# Altium integrated library Xilinx Spartan-II.IntLib: 60 symbols (part 1 of 7)
Pins are listed as number, name and electrical type; pins without a type are passive.

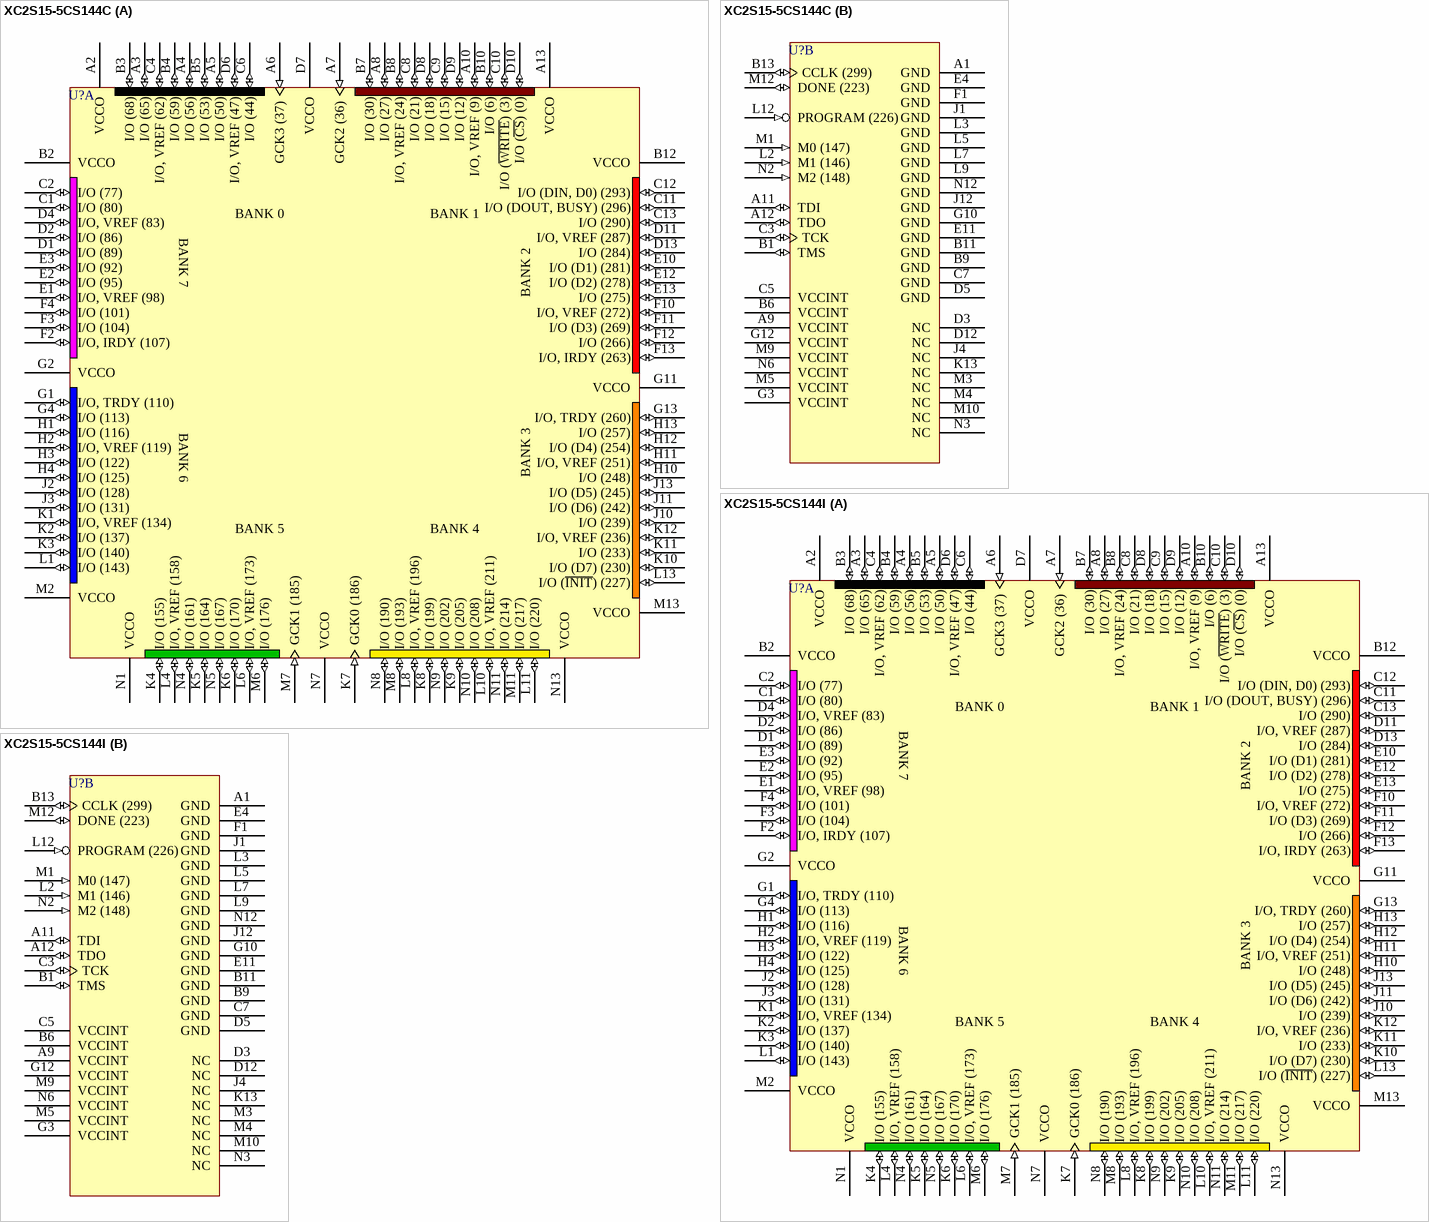
[diagram p0: symbols XC2S15-5CS144C to XC2S15-5CS144I]

## XC2S15-5CS144C
designator U?
Spartan-II 2.5V FPGA, 144-Ball CSBGA, Standard Performance, Commercial Grade; PackageDocument: ver1.0, Jun-2000; Published: 13-Jul-2001; LatestRevisionDate: 17-Sep-2003; LatestRevisionNote: PCB Footprint dimensions updated; DatasheetDocument: Sep-2003; PackageReference: CS144; Publisher: Altium Limited
footprint CS144 (144-Ball Chip Scale Ball Grid Array (CS144))
3D model XC2S15-CS144 (144-Ball Chip Scale Ball Grid Array (CS144))
signal-integrity model XC2S15_CS144 (Spartan-II)
part A pins: A2 VCCO (power), A3 I/O (65) (io), A4 I/O (56) (io), A5 I/O (50) (io), A6 GCK3 (37) (in), A7 GCK2 (36) (in), A8 I/O (27) (io), A10 I/O, VREF (9) (io), A13 VCCO (power), B2 VCCO (power), B3 I/O (68) (io), B4 I/O (59) (io), B5 I/O (53) (io), B7 I/O (30) (io), B8 I/O, VREF (24) (io), B10 I/O (6) (io), B12 VCCO (power), C1 I/O (80) (io), C2 I/O (77) (io), C4 I/O, VREF (62) (io), C6 I/O (44) (io), C8 I/O (21) (io), C9 I/O (15) (io), C10 I/O (~{WRITE}) (3) (io), C11 I/O (DOUT, BUSY) (296) (io), C12 I/O (DIN, D0) (293) (io), C13 I/O (290) (io), D1 I/O (89) (io), D2 I/O (86) (io), D4 I/O, VREF (83) (io), D6 I/O, VREF (47) (io), D7 VCCO (power), D8 I/O (18) (io), D9 I/O (12) (io), D10 I/O (~{CS}) (0) (io), D11 I/O, VREF (287) (io), D13 I/O (284) (io), E1 I/O, VREF (98) (io), E2 I/O (95) (io), E3 I/O (92) (io), E10 I/O (D1) (281) (io), E12 I/O (D2) (278) (io), E13 I/O (275) (io), F2 I/O, IRDY (107) (io), F3 I/O (104) (io), F4 I/O (101) (io), F10 I/O, VREF (272) (io), F11 I/O (D3) (269) (io), F12 I/O (266) (io), F13 I/O, IRDY (263) (io), G1 I/O, TRDY (110) (io), G2 VCCO (power), G4 I/O (113) (io), G11 VCCO (power), G13 I/O, TRDY (260) (io), H1 I/O (116) (io), H2 I/O, VREF (119) (io), H3 I/O (122) (io), H4 I/O (125) (io), H10 I/O (248) (io), H11 I/O, VREF (251) (io), H12 I/O (D4) (254) (io), H13 I/O (257) (io), J2 I/O (128) (io), J3 I/O (131) (io), J10 I/O (239) (io), J11 I/O (D6) (242) (io), J13 I/O (D5) (245) (io), K1 I/O, VREF (134) (io), K2 I/O (137) (io), K3 I/O (140) (io), K4 I/O (155) (io), K5 I/O (164) (io), K6 I/O (170) (io), K7 GCK0 (186) (in), K8 I/O (199) (io), K9 I/O (205) (io), K10 I/O (D7) (230) (io), K11 I/O (233) (io), K12 I/O, VREF (236) (io), L1 I/O (143) (io), L4 I/O, VREF (158) (io), L6 I/O, VREF (173) (io), L8 I/O, VREF (196) (io), L10 I/O, VREF (211) (io), L11 I/O (220) (io), L13 I/O (~{INIT}) (227) (io), M2 VCCO (power), M6 I/O (176) (io), M7 GCK1 (185) (in), M8 I/O (193) (io), M11 I/O (217) (io), M13 VCCO (power), N1 VCCO (power), N4 I/O (161) (io), N5 I/O (167) (io), N7 VCCO (power), N8 I/O (190) (io), N9 I/O (202) (io), N10 I/O (208) (io), N11 I/O (214) (io), N13 VCCO (power)
part B pins: A1 GND (power), A9 VCCINT (power), A11 TDI (io), A12 TDO (io), B1 TMS (io), B6 VCCINT (power), B9 GND (power), B11 GND (power), B13 CCLK (299) (io), C3 TCK (io), C5 VCCINT (power), C7 GND (power), D3 NC, D5 GND (power), D12 NC, E4 GND (power), E11 GND (power), F1 GND (power), G3 VCCINT (power), G10 GND (power), G12 VCCINT (power), J1 GND (power), J4 NC, J12 GND (power), K13 NC, L2 M1 (146) (in), L3 GND (power), L5 GND (power), L7 GND (power), L9 GND (power), L12 PROGRAM (226) (in), M1 M0 (147) (in), M3 NC, M4 NC, M5 VCCINT (power), M9 VCCINT (power), M10 NC, M12 DONE (223) (io), N2 M2 (148) (in), N3 NC, N6 VCCINT (power), N12 GND (power)
part A text: BANK 0; BANK 1; BANK 7; BANK 2; BANK 6; BANK 3; BANK 5; BANK 4

## XC2S15-5CS144I
designator U?
Spartan-II 2.5V FPGA, 144-Ball CSBGA, Standard Performance, Industrial Grade; PackageDocument: ver1.0, Jun-2000; Published: 13-Jul-2001; LatestRevisionDate: 17-Sep-2003; LatestRevisionNote: PCB Footprint dimensions updated; DatasheetDocument: Sep-2003; PackageReference: CS144; Publisher: Altium Limited
footprint CS144 (144-Ball Chip Scale Ball Grid Array (CS144))
3D model XC2S15-CS144 (144-Ball Chip Scale Ball Grid Array (CS144))
signal-integrity model XC2S15_CS144 (Spartan-II)
part A pins: A2 VCCO (power), A3 I/O (65) (io), A4 I/O (56) (io), A5 I/O (50) (io), A6 GCK3 (37) (in), A7 GCK2 (36) (in), A8 I/O (27) (io), A10 I/O, VREF (9) (io), A13 VCCO (power), B2 VCCO (power), B3 I/O (68) (io), B4 I/O (59) (io), B5 I/O (53) (io), B7 I/O (30) (io), B8 I/O, VREF (24) (io), B10 I/O (6) (io), B12 VCCO (power), C1 I/O (80) (io), C2 I/O (77) (io), C4 I/O, VREF (62) (io), C6 I/O (44) (io), C8 I/O (21) (io), C9 I/O (15) (io), C10 I/O (~{WRITE}) (3) (io), C11 I/O (DOUT, BUSY) (296) (io), C12 I/O (DIN, D0) (293) (io), C13 I/O (290) (io), D1 I/O (89) (io), D2 I/O (86) (io), D4 I/O, VREF (83) (io), D6 I/O, VREF (47) (io), D7 VCCO (power), D8 I/O (18) (io), D9 I/O (12) (io), D10 I/O (~{CS}) (0) (io), D11 I/O, VREF (287) (io), D13 I/O (284) (io), E1 I/O, VREF (98) (io), E2 I/O (95) (io), E3 I/O (92) (io), E10 I/O (D1) (281) (io), E12 I/O (D2) (278) (io), E13 I/O (275) (io), F2 I/O, IRDY (107) (io), F3 I/O (104) (io), F4 I/O (101) (io), F10 I/O, VREF (272) (io), F11 I/O (D3) (269) (io), F12 I/O (266) (io), F13 I/O, IRDY (263) (io), G1 I/O, TRDY (110) (io), G2 VCCO (power), G4 I/O (113) (io), G11 VCCO (power), G13 I/O, TRDY (260) (io), H1 I/O (116) (io), H2 I/O, VREF (119) (io), H3 I/O (122) (io), H4 I/O (125) (io), H10 I/O (248) (io), H11 I/O, VREF (251) (io), H12 I/O (D4) (254) (io), H13 I/O (257) (io), J2 I/O (128) (io), J3 I/O (131) (io), J10 I/O (239) (io), J11 I/O (D6) (242) (io), J13 I/O (D5) (245) (io), K1 I/O, VREF (134) (io), K2 I/O (137) (io), K3 I/O (140) (io), K4 I/O (155) (io), K5 I/O (164) (io), K6 I/O (170) (io), K7 GCK0 (186) (in), K8 I/O (199) (io), K9 I/O (205) (io), K10 I/O (D7) (230) (io), K11 I/O (233) (io), K12 I/O, VREF (236) (io), L1 I/O (143) (io), L4 I/O, VREF (158) (io), L6 I/O, VREF (173) (io), L8 I/O, VREF (196) (io), L10 I/O, VREF (211) (io), L11 I/O (220) (io), L13 I/O (~{INIT}) (227) (io), M2 VCCO (power), M6 I/O (176) (io), M7 GCK1 (185) (in), M8 I/O (193) (io), M11 I/O (217) (io), M13 VCCO (power), N1 VCCO (power), N4 I/O (161) (io), N5 I/O (167) (io), N7 VCCO (power), N8 I/O (190) (io), N9 I/O (202) (io), N10 I/O (208) (io), N11 I/O (214) (io), N13 VCCO (power)
part B pins: A1 GND (power), A9 VCCINT (power), A11 TDI (io), A12 TDO (io), B1 TMS (io), B6 VCCINT (power), B9 GND (power), B11 GND (power), B13 CCLK (299) (io), C3 TCK (io), C5 VCCINT (power), C7 GND (power), D3 NC, D5 GND (power), D12 NC, E4 GND (power), E11 GND (power), F1 GND (power), G3 VCCINT (power), G10 GND (power), G12 VCCINT (power), J1 GND (power), J4 NC, J12 GND (power), K13 NC, L2 M1 (146) (in), L3 GND (power), L5 GND (power), L7 GND (power), L9 GND (power), L12 PROGRAM (226) (in), M1 M0 (147) (in), M3 NC, M4 NC, M5 VCCINT (power), M9 VCCINT (power), M10 NC, M12 DONE (223) (io), N2 M2 (148) (in), N3 NC, N6 VCCINT (power), N12 GND (power)
part A text: BANK 0; BANK 1; BANK 7; BANK 2; BANK 6; BANK 3; BANK 5; BANK 4

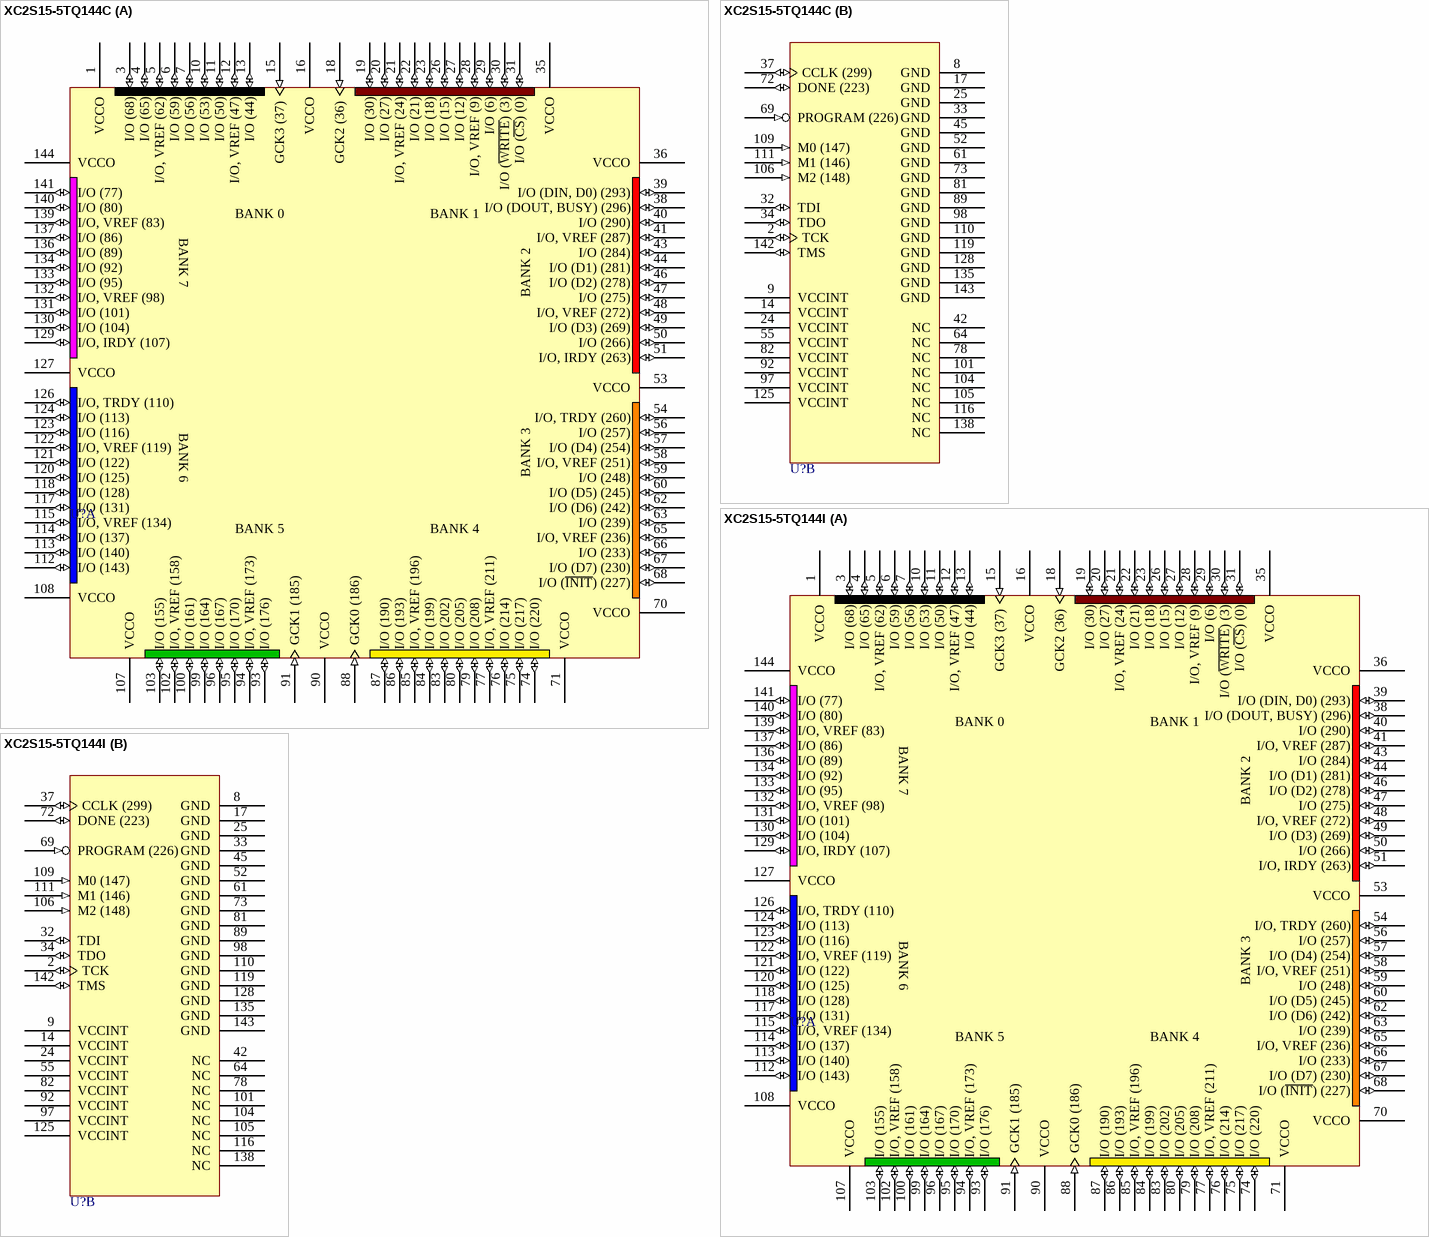
[diagram p1: symbols XC2S15-5TQ144C to XC2S15-5TQ144I]

## XC2S15-5TQ144C
designator U?
Spartan-II 2.5V FPGA, 144-Pin TQFP, Standard Performance, Commercial Grade; PackageDocument: ver1.1, Oct-2002; Published: 13-Jul-2001; LatestRevisionDate: 17-Jul-2002; LatestRevisionNote: Re-released for DXP Platform.; DatasheetDocument: Sep-2003; PackageReference: TQ144; Publisher: Altium Limited; Code_JEDEC: MS-026-BFB; Code_IPC: SQFP20X20-144
footprint TQ144 (144-Pin Thin Quad Flat Pack (TQ144))
3D model XC2S15-TQ144 (144-Pin Thin Quad Flat Pack (TQ144))
signal-integrity model XC2S15_TQ144 (Spartan-II)
part A pins: 1 VCCO (power), 3 I/O (68) (io), 4 I/O (65) (io), 5 I/O, VREF (62) (io), 6 I/O (59) (io), 7 I/O (56) (io), 10 I/O (53) (io), 11 I/O (50) (io), 12 I/O, VREF (47) (io), 13 I/O (44) (io), 15 GCK3 (37) (in), 16 VCCO (power), 18 GCK2 (36) (in), 19 I/O (30) (io), 20 I/O (27) (io), 21 I/O, VREF (24) (io), 22 I/O (21) (io), 23 I/O (18) (io), 26 I/O (15) (io), 27 I/O (12) (io), 28 I/O, VREF (9) (io), 29 I/O (6) (io), 30 I/O (~{WRITE}) (3) (io), 31 I/O (~{CS}) (0) (io), 35 VCCO (power), 36 VCCO (power), 38 I/O (DOUT, BUSY) (296) (io), 39 I/O (DIN, D0) (293) (io), 40 I/O (290) (io), 41 I/O, VREF (287) (io), 43 I/O (284) (io), 44 I/O (D1) (281) (io), 46 I/O (D2) (278) (io), 47 I/O (275) (io), 48 I/O, VREF (272) (io), 49 I/O (D3) (269) (io), 50 I/O (266) (io), 51 I/O, IRDY (263) (io), 53 VCCO (power), 54 I/O, TRDY (260) (io), 56 I/O (257) (io), 57 I/O (D4) (254) (io), 58 I/O, VREF (251) (io), 59 I/O (248) (io), 60 I/O (D5) (245) (io), 62 I/O (D6) (242) (io), 63 I/O (239) (io), 65 I/O, VREF (236) (io), 66 I/O (233) (io), 67 I/O (D7) (230) (io), 68 I/O (~{INIT}) (227) (io), 70 VCCO (power), 71 VCCO (power), 74 I/O (220) (io), 75 I/O (217) (io), 76 I/O (214) (io), 77 I/O, VREF (211) (io), 79 I/O (208) (io), 80 I/O (205) (io), 83 I/O (202) (io), 84 I/O (199) (io), 85 I/O, VREF (196) (io), 86 I/O (193) (io), 87 I/O (190) (io), 88 GCK0 (186) (in), 90 VCCO (power), 91 GCK1 (185) (in), 93 I/O (176) (io), 94 I/O, VREF (173) (io), 95 I/O (170) (io), 96 I/O (167) (io), 99 I/O (164) (io), 100 I/O (161) (io), 102 I/O, VREF (158) (io), 103 I/O (155) (io), 107 VCCO (power), 108 VCCO (power), 112 I/O (143) (io), 113 I/O (140) (io), 114 I/O (137) (io), 115 I/O, VREF (134) (io), 117 I/O (131) (io), 118 I/O (128) (io), 120 I/O (125) (io), 121 I/O (122) (io), 122 I/O, VREF (119) (io), 123 I/O (116) (io), 124 I/O (113) (io), 126 I/O, TRDY (110) (io), 127 VCCO (power), 129 I/O, IRDY (107) (io), 130 I/O (104) (io), 131 I/O (101) (io), 132 I/O, VREF (98) (io), 133 I/O (95) (io), 134 I/O (92) (io), 136 I/O (89) (io), 137 I/O (86) (io), 139 I/O, VREF (83) (io), 140 I/O (80) (io), 141 I/O (77) (io), 144 VCCO (power)
part B pins: 2 TCK (io), 8 GND (power), 9 VCCINT (power), 14 VCCINT (power), 17 GND (power), 24 VCCINT (power), 25 GND (power), 32 TDI (io), 33 GND (power), 34 TDO (io), 37 CCLK (299) (io), 42 NC, 45 GND (power), 52 GND (power), 55 VCCINT (power), 61 GND (power), 64 NC, 69 PROGRAM (226) (in), 72 DONE (223) (io), 73 GND (power), 78 NC, 81 GND (power), 82 VCCINT (power), 89 GND (power), 92 VCCINT (power), 97 VCCINT (power), 98 GND (power), 101 NC, 104 NC, 105 NC, 106 M2 (148) (in), 109 M0 (147) (in), 110 GND (power), 111 M1 (146) (in), 116 NC, 119 GND (power), 125 VCCINT (power), 128 GND (power), 135 GND (power), 138 NC, 142 TMS (io), 143 GND (power)
part A text: BANK 0; BANK 1; BANK 7; BANK 2; BANK 6; BANK 3; BANK 5; BANK 4

## XC2S15-5TQ144I
designator U?
Spartan-II 2.5V FPGA, 144-Pin TQFP, Standard Performance, Industrial Grade; PackageDocument: ver1.1, Oct-2002; Published: 13-Jul-2001; LatestRevisionDate: 17-Jul-2002; LatestRevisionNote: Re-released for DXP Platform.; DatasheetDocument: Sep-2003; PackageReference: TQ144; Publisher: Altium Limited; Code_JEDEC: MS-026-BFB; Code_IPC: SQFP20X20-144
footprint TQ144 (144-Pin Thin Quad Flat Pack (TQ144))
3D model XC2S15-TQ144 (144-Pin Thin Quad Flat Pack (TQ144))
signal-integrity model XC2S15_TQ144 (Spartan-II)
part A pins: 1 VCCO (power), 3 I/O (68) (io), 4 I/O (65) (io), 5 I/O, VREF (62) (io), 6 I/O (59) (io), 7 I/O (56) (io), 10 I/O (53) (io), 11 I/O (50) (io), 12 I/O, VREF (47) (io), 13 I/O (44) (io), 15 GCK3 (37) (in), 16 VCCO (power), 18 GCK2 (36) (in), 19 I/O (30) (io), 20 I/O (27) (io), 21 I/O, VREF (24) (io), 22 I/O (21) (io), 23 I/O (18) (io), 26 I/O (15) (io), 27 I/O (12) (io), 28 I/O, VREF (9) (io), 29 I/O (6) (io), 30 I/O (~{WRITE}) (3) (io), 31 I/O (~{CS}) (0) (io), 35 VCCO (power), 36 VCCO (power), 38 I/O (DOUT, BUSY) (296) (io), 39 I/O (DIN, D0) (293) (io), 40 I/O (290) (io), 41 I/O, VREF (287) (io), 43 I/O (284) (io), 44 I/O (D1) (281) (io), 46 I/O (D2) (278) (io), 47 I/O (275) (io), 48 I/O, VREF (272) (io), 49 I/O (D3) (269) (io), 50 I/O (266) (io), 51 I/O, IRDY (263) (io), 53 VCCO (power), 54 I/O, TRDY (260) (io), 56 I/O (257) (io), 57 I/O (D4) (254) (io), 58 I/O, VREF (251) (io), 59 I/O (248) (io), 60 I/O (D5) (245) (io), 62 I/O (D6) (242) (io), 63 I/O (239) (io), 65 I/O, VREF (236) (io), 66 I/O (233) (io), 67 I/O (D7) (230) (io), 68 I/O (~{INIT}) (227) (io), 70 VCCO (power), 71 VCCO (power), 74 I/O (220) (io), 75 I/O (217) (io), 76 I/O (214) (io), 77 I/O, VREF (211) (io), 79 I/O (208) (io), 80 I/O (205) (io), 83 I/O (202) (io), 84 I/O (199) (io), 85 I/O, VREF (196) (io), 86 I/O (193) (io), 87 I/O (190) (io), 88 GCK0 (186) (in), 90 VCCO (power), 91 GCK1 (185) (in), 93 I/O (176) (io), 94 I/O, VREF (173) (io), 95 I/O (170) (io), 96 I/O (167) (io), 99 I/O (164) (io), 100 I/O (161) (io), 102 I/O, VREF (158) (io), 103 I/O (155) (io), 107 VCCO (power), 108 VCCO (power), 112 I/O (143) (io), 113 I/O (140) (io), 114 I/O (137) (io), 115 I/O, VREF (134) (io), 117 I/O (131) (io), 118 I/O (128) (io), 120 I/O (125) (io), 121 I/O (122) (io), 122 I/O, VREF (119) (io), 123 I/O (116) (io), 124 I/O (113) (io), 126 I/O, TRDY (110) (io), 127 VCCO (power), 129 I/O, IRDY (107) (io), 130 I/O (104) (io), 131 I/O (101) (io), 132 I/O, VREF (98) (io), 133 I/O (95) (io), 134 I/O (92) (io), 136 I/O (89) (io), 137 I/O (86) (io), 139 I/O, VREF (83) (io), 140 I/O (80) (io), 141 I/O (77) (io), 144 VCCO (power)
part B pins: 2 TCK (io), 8 GND (power), 9 VCCINT (power), 14 VCCINT (power), 17 GND (power), 24 VCCINT (power), 25 GND (power), 32 TDI (io), 33 GND (power), 34 TDO (io), 37 CCLK (299) (io), 42 NC, 45 GND (power), 52 GND (power), 55 VCCINT (power), 61 GND (power), 64 NC, 69 PROGRAM (226) (in), 72 DONE (223) (io), 73 GND (power), 78 NC, 81 GND (power), 82 VCCINT (power), 89 GND (power), 92 VCCINT (power), 97 VCCINT (power), 98 GND (power), 101 NC, 104 NC, 105 NC, 106 M2 (148) (in), 109 M0 (147) (in), 110 GND (power), 111 M1 (146) (in), 116 NC, 119 GND (power), 125 VCCINT (power), 128 GND (power), 135 GND (power), 138 NC, 142 TMS (io), 143 GND (power)
part A text: BANK 0; BANK 1; BANK 7; BANK 2; BANK 6; BANK 3; BANK 5; BANK 4

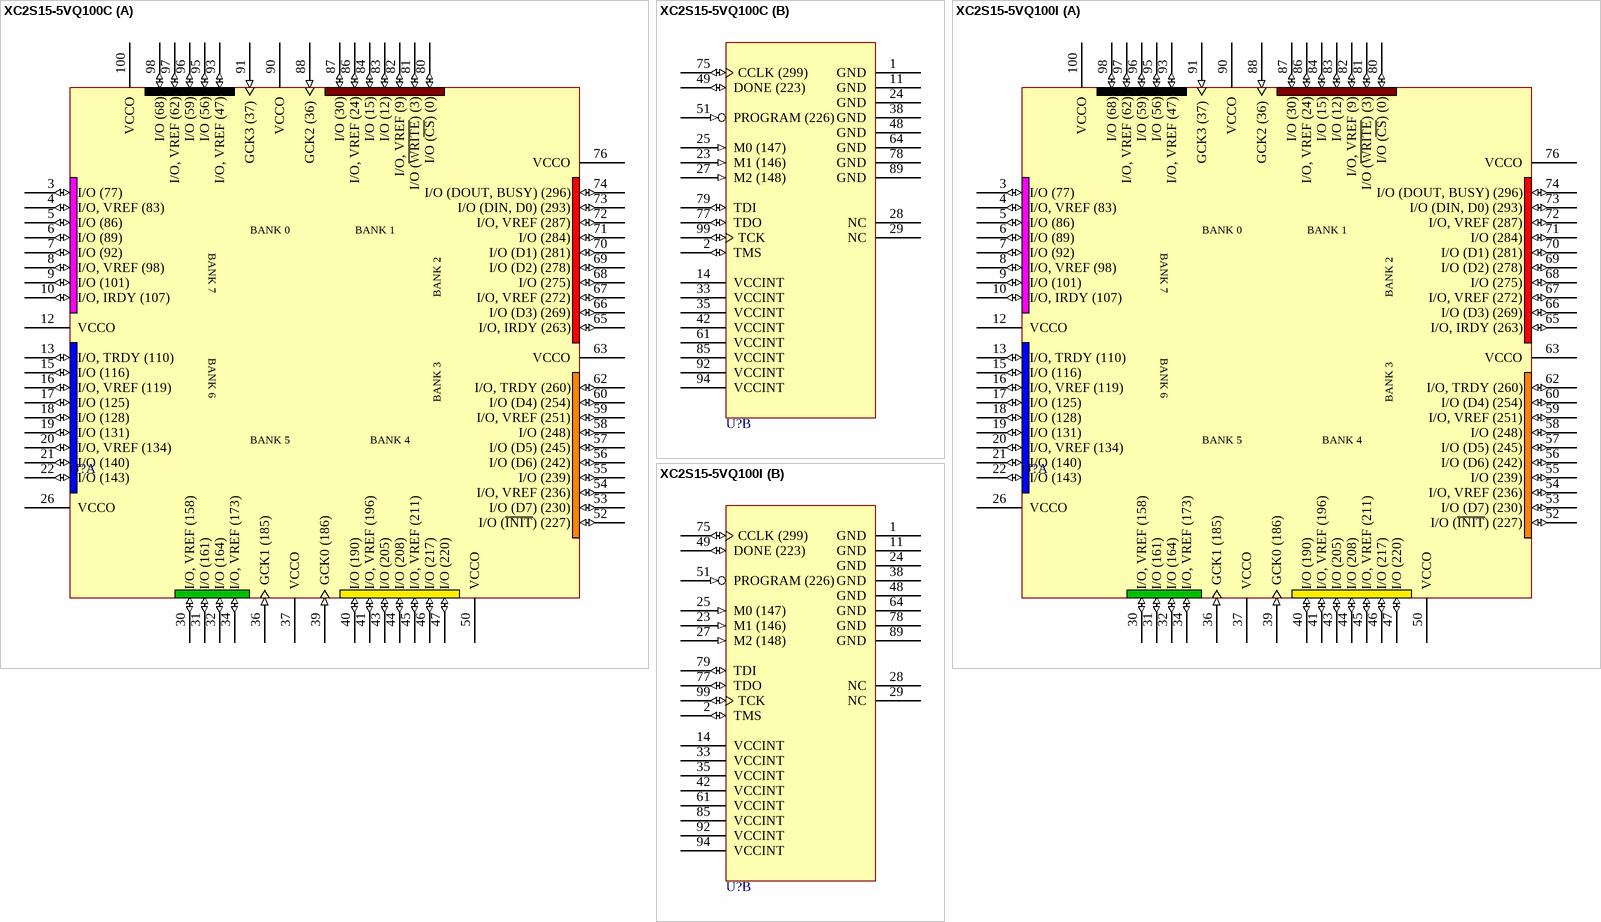
[diagram p2: symbols XC2S15-5VQ100C to XC2S15-5VQ100I]

## XC2S15-5VQ100C
designator U?
Spartan-II 2.5V FPGA, 100-Pin VQFP, Standard Performance, Commercial Grade; PackageDocument: ver1.1, Oct-2002; Published: 13-Jul-2001; LatestRevisionDate: 17-Jul-2002; LatestRevisionNote: Re-released for DXP Platform.; DatasheetDocument: Sep-2003; PackageReference: VQ100; Publisher: Altium Limited; Code_JEDEC: MS-026-AED; Code_IPC: SQFP14X14-100
footprint VQ100 (100-Pin Very Thin Quad Flat Pack (VQ100))
3D model XC2S15-VQ100 (100-Pin Very Thin Quad Flat Pack (VQ100))
signal-integrity model XC2S15_VQ100 (Spartan-II)
part A pins: 3 I/O (77) (io), 4 I/O, VREF (83) (io), 5 I/O (86) (io), 6 I/O (89) (io), 7 I/O (92) (io), 8 I/O, VREF (98) (io), 9 I/O (101) (io), 10 I/O, IRDY (107) (io), 12 VCCO (power), 13 I/O, TRDY (110) (io), 15 I/O (116) (io), 16 I/O, VREF (119) (io), 17 I/O (125) (io), 18 I/O (128) (io), 19 I/O (131) (io), 20 I/O, VREF (134) (io), 21 I/O (140) (io), 22 I/O (143) (io), 26 VCCO (power), 30 I/O, VREF (158) (io), 31 I/O (161) (io), 32 I/O (164) (io), 34 I/O, VREF (173) (io), 36 GCK1 (185) (in), 37 VCCO (power), 39 GCK0 (186) (in), 40 I/O (190) (io), 41 I/O, VREF (196) (io), 43 I/O (205) (io), 44 I/O (208) (io), 45 I/O, VREF (211) (io), 46 I/O (217) (io), 47 I/O (220) (io), 50 VCCO (power), 52 I/O (~{INIT}) (227) (io), 53 I/O (D7) (230) (io), 54 I/O, VREF (236) (io), 55 I/O (239) (io), 56 I/O (D6) (242) (io), 57 I/O (D5) (245) (io), 58 I/O (248) (io), 59 I/O, VREF (251) (io), 60 I/O (D4) (254) (io), 62 I/O, TRDY (260) (io), 63 VCCO (power), 65 I/O, IRDY (263) (io), 66 I/O (D3) (269) (io), 67 I/O, VREF (272) (io), 68 I/O (275) (io), 69 I/O (D2) (278) (io), 70 I/O (D1) (281) (io), 71 I/O (284) (io), 72 I/O, VREF (287) (io), 73 I/O (DIN, D0) (293) (io), 74 I/O (DOUT, BUSY) (296) (io), 76 VCCO (power), 80 I/O (~{CS}) (0) (io), 81 I/O (~{WRITE}) (3) (io), 82 I/O, VREF (9) (io), 83 I/O (12) (io), 84 I/O (15) (io), 86 I/O, VREF (24) (io), 87 I/O (30) (io), 88 GCK2 (36) (in), 90 VCCO (power), 91 GCK3 (37) (in), 93 I/O, VREF (47) (io), 95 I/O (56) (io), 96 I/O (59) (io), 97 I/O, VREF (62) (io), 98 I/O (68) (io), 100 VCCO (power)
part B pins: 1 GND (power), 2 TMS (io), 11 GND (power), 14 VCCINT (power), 23 M1 (146) (in), 24 GND (power), 25 M0 (147) (in), 27 M2 (148) (in), 28 NC, 29 NC, 33 VCCINT (power), 35 VCCINT (power), 38 GND (power), 42 VCCINT (power), 48 GND (power), 49 DONE (223) (io), 51 PROGRAM (226) (in), 61 VCCINT (power), 64 GND (power), 75 CCLK (299) (io), 77 TDO (io), 78 GND (power), 79 TDI (io), 85 VCCINT (power), 89 GND (power), 92 VCCINT (power), 94 VCCINT (power), 99 TCK (io)
part A text: BANK 0; BANK 1; BANK 7; BANK 2; BANK 6; BANK 3; BANK 5; BANK 4

## XC2S15-5VQ100I
designator U?
Spartan-II 2.5V FPGA, 100-Pin VQFP, Standard Performance, Industrial Grade; PackageDocument: ver1.1, Oct-2002; Published: 13-Jul-2001; LatestRevisionDate: 17-Jul-2002; LatestRevisionNote: Re-released for DXP Platform.; DatasheetDocument: Sep-2003; PackageReference: VQ100; Publisher: Altium Limited; Code_JEDEC: MS-026-AED; Code_IPC: SQFP14X14-100
footprint VQ100 (100-Pin Very Thin Quad Flat Pack (VQ100))
3D model XC2S15-VQ100 (100-Pin Very Thin Quad Flat Pack (VQ100))
signal-integrity model XC2S15_VQ100 (Spartan-II)
part A pins: 3 I/O (77) (io), 4 I/O, VREF (83) (io), 5 I/O (86) (io), 6 I/O (89) (io), 7 I/O (92) (io), 8 I/O, VREF (98) (io), 9 I/O (101) (io), 10 I/O, IRDY (107) (io), 12 VCCO (power), 13 I/O, TRDY (110) (io), 15 I/O (116) (io), 16 I/O, VREF (119) (io), 17 I/O (125) (io), 18 I/O (128) (io), 19 I/O (131) (io), 20 I/O, VREF (134) (io), 21 I/O (140) (io), 22 I/O (143) (io), 26 VCCO (power), 30 I/O, VREF (158) (io), 31 I/O (161) (io), 32 I/O (164) (io), 34 I/O, VREF (173) (io), 36 GCK1 (185) (in), 37 VCCO (power), 39 GCK0 (186) (in), 40 I/O (190) (io), 41 I/O, VREF (196) (io), 43 I/O (205) (io), 44 I/O (208) (io), 45 I/O, VREF (211) (io), 46 I/O (217) (io), 47 I/O (220) (io), 50 VCCO (power), 52 I/O (~{INIT}) (227) (io), 53 I/O (D7) (230) (io), 54 I/O, VREF (236) (io), 55 I/O (239) (io), 56 I/O (D6) (242) (io), 57 I/O (D5) (245) (io), 58 I/O (248) (io), 59 I/O, VREF (251) (io), 60 I/O (D4) (254) (io), 62 I/O, TRDY (260) (io), 63 VCCO (power), 65 I/O, IRDY (263) (io), 66 I/O (D3) (269) (io), 67 I/O, VREF (272) (io), 68 I/O (275) (io), 69 I/O (D2) (278) (io), 70 I/O (D1) (281) (io), 71 I/O (284) (io), 72 I/O, VREF (287) (io), 73 I/O (DIN, D0) (293) (io), 74 I/O (DOUT, BUSY) (296) (io), 76 VCCO (power), 80 I/O (~{CS}) (0) (io), 81 I/O (~{WRITE}) (3) (io), 82 I/O, VREF (9) (io), 83 I/O (12) (io), 84 I/O (15) (io), 86 I/O, VREF (24) (io), 87 I/O (30) (io), 88 GCK2 (36) (in), 90 VCCO (power), 91 GCK3 (37) (in), 93 I/O, VREF (47) (io), 95 I/O (56) (io), 96 I/O (59) (io), 97 I/O, VREF (62) (io), 98 I/O (68) (io), 100 VCCO (power)
part B pins: 1 GND (power), 2 TMS (io), 11 GND (power), 14 VCCINT (power), 23 M1 (146) (in), 24 GND (power), 25 M0 (147) (in), 27 M2 (148) (in), 28 NC, 29 NC, 33 VCCINT (power), 35 VCCINT (power), 38 GND (power), 42 VCCINT (power), 48 GND (power), 49 DONE (223) (io), 51 PROGRAM (226) (in), 61 VCCINT (power), 64 GND (power), 75 CCLK (299) (io), 77 TDO (io), 78 GND (power), 79 TDI (io), 85 VCCINT (power), 89 GND (power), 92 VCCINT (power), 94 VCCINT (power), 99 TCK (io)
part A text: BANK 0; BANK 1; BANK 7; BANK 2; BANK 6; BANK 3; BANK 5; BANK 4

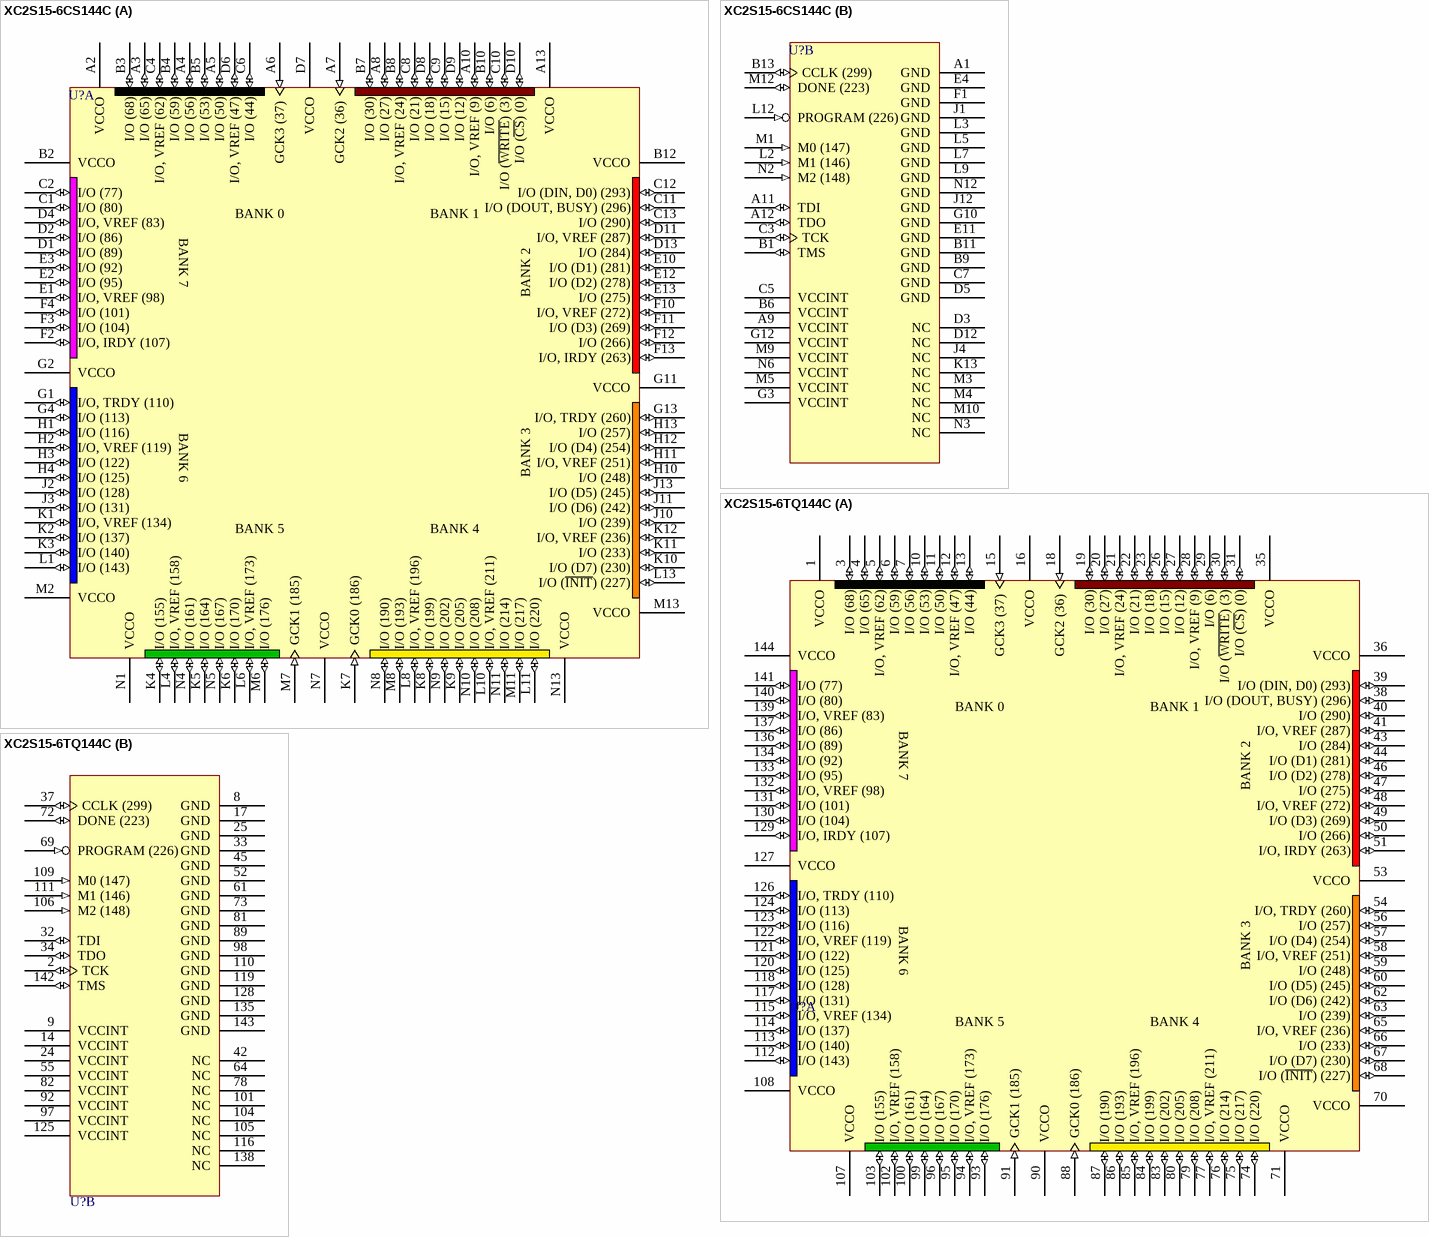
[diagram p3: symbols XC2S15-6CS144C to XC2S15-6TQ144C]

## XC2S15-6CS144C
designator U?
Spartan-II 2.5V FPGA, 144-Ball CSBGA, Higher Performance, Commercial Grade; PackageDocument: ver1.0, Jun-2000; Published: 13-Jul-2001; LatestRevisionDate: 17-Sep-2003; LatestRevisionNote: PCB Footprint dimensions updated; DatasheetDocument: Sep-2003; PackageReference: CS144; Publisher: Altium Limited
footprint CS144 (144-Ball Chip Scale Ball Grid Array (CS144))
3D model XC2S15-CS144 (144-Ball Chip Scale Ball Grid Array (CS144))
signal-integrity model XC2S15_CS144 (Spartan-II)
part A pins: A2 VCCO (power), A3 I/O (65) (io), A4 I/O (56) (io), A5 I/O (50) (io), A6 GCK3 (37) (in), A7 GCK2 (36) (in), A8 I/O (27) (io), A10 I/O, VREF (9) (io), A13 VCCO (power), B2 VCCO (power), B3 I/O (68) (io), B4 I/O (59) (io), B5 I/O (53) (io), B7 I/O (30) (io), B8 I/O, VREF (24) (io), B10 I/O (6) (io), B12 VCCO (power), C1 I/O (80) (io), C2 I/O (77) (io), C4 I/O, VREF (62) (io), C6 I/O (44) (io), C8 I/O (21) (io), C9 I/O (15) (io), C10 I/O (~{WRITE}) (3) (io), C11 I/O (DOUT, BUSY) (296) (io), C12 I/O (DIN, D0) (293) (io), C13 I/O (290) (io), D1 I/O (89) (io), D2 I/O (86) (io), D4 I/O, VREF (83) (io), D6 I/O, VREF (47) (io), D7 VCCO (power), D8 I/O (18) (io), D9 I/O (12) (io), D10 I/O (~{CS}) (0) (io), D11 I/O, VREF (287) (io), D13 I/O (284) (io), E1 I/O, VREF (98) (io), E2 I/O (95) (io), E3 I/O (92) (io), E10 I/O (D1) (281) (io), E12 I/O (D2) (278) (io), E13 I/O (275) (io), F2 I/O, IRDY (107) (io), F3 I/O (104) (io), F4 I/O (101) (io), F10 I/O, VREF (272) (io), F11 I/O (D3) (269) (io), F12 I/O (266) (io), F13 I/O, IRDY (263) (io), G1 I/O, TRDY (110) (io), G2 VCCO (power), G4 I/O (113) (io), G11 VCCO (power), G13 I/O, TRDY (260) (io), H1 I/O (116) (io), H2 I/O, VREF (119) (io), H3 I/O (122) (io), H4 I/O (125) (io), H10 I/O (248) (io), H11 I/O, VREF (251) (io), H12 I/O (D4) (254) (io), H13 I/O (257) (io), J2 I/O (128) (io), J3 I/O (131) (io), J10 I/O (239) (io), J11 I/O (D6) (242) (io), J13 I/O (D5) (245) (io), K1 I/O, VREF (134) (io), K2 I/O (137) (io), K3 I/O (140) (io), K4 I/O (155) (io), K5 I/O (164) (io), K6 I/O (170) (io), K7 GCK0 (186) (in), K8 I/O (199) (io), K9 I/O (205) (io), K10 I/O (D7) (230) (io), K11 I/O (233) (io), K12 I/O, VREF (236) (io), L1 I/O (143) (io), L4 I/O, VREF (158) (io), L6 I/O, VREF (173) (io), L8 I/O, VREF (196) (io), L10 I/O, VREF (211) (io), L11 I/O (220) (io), L13 I/O (~{INIT}) (227) (io), M2 VCCO (power), M6 I/O (176) (io), M7 GCK1 (185) (in), M8 I/O (193) (io), M11 I/O (217) (io), M13 VCCO (power), N1 VCCO (power), N4 I/O (161) (io), N5 I/O (167) (io), N7 VCCO (power), N8 I/O (190) (io), N9 I/O (202) (io), N10 I/O (208) (io), N11 I/O (214) (io), N13 VCCO (power)
part B pins: A1 GND (power), A9 VCCINT (power), A11 TDI (io), A12 TDO (io), B1 TMS (io), B6 VCCINT (power), B9 GND (power), B11 GND (power), B13 CCLK (299) (io), C3 TCK (io), C5 VCCINT (power), C7 GND (power), D3 NC, D5 GND (power), D12 NC, E4 GND (power), E11 GND (power), F1 GND (power), G3 VCCINT (power), G10 GND (power), G12 VCCINT (power), J1 GND (power), J4 NC, J12 GND (power), K13 NC, L2 M1 (146) (in), L3 GND (power), L5 GND (power), L7 GND (power), L9 GND (power), L12 PROGRAM (226) (in), M1 M0 (147) (in), M3 NC, M4 NC, M5 VCCINT (power), M9 VCCINT (power), M10 NC, M12 DONE (223) (io), N2 M2 (148) (in), N3 NC, N6 VCCINT (power), N12 GND (power)
part A text: BANK 0; BANK 1; BANK 7; BANK 2; BANK 6; BANK 3; BANK 5; BANK 4

## XC2S15-6TQ144C
designator U?
Spartan-II 2.5V FPGA, 144-Pin TQFP, Higher Performance, Commercial Grade; PackageDocument: ver1.1, Oct-2002; Published: 13-Jul-2001; LatestRevisionDate: 17-Jul-2002; LatestRevisionNote: Re-released for DXP Platform.; DatasheetDocument: Sep-2003; PackageReference: TQ144; Publisher: Altium Limited; Code_JEDEC: MS-026-BFB; Code_IPC: SQFP20X20-144
footprint TQ144 (144-Pin Thin Quad Flat Pack (TQ144))
3D model XC2S15-TQ144 (144-Pin Thin Quad Flat Pack (TQ144))
signal-integrity model XC2S15_TQ144 (Spartan-II)
part A pins: 1 VCCO (power), 3 I/O (68) (io), 4 I/O (65) (io), 5 I/O, VREF (62) (io), 6 I/O (59) (io), 7 I/O (56) (io), 10 I/O (53) (io), 11 I/O (50) (io), 12 I/O, VREF (47) (io), 13 I/O (44) (io), 15 GCK3 (37) (in), 16 VCCO (power), 18 GCK2 (36) (in), 19 I/O (30) (io), 20 I/O (27) (io), 21 I/O, VREF (24) (io), 22 I/O (21) (io), 23 I/O (18) (io), 26 I/O (15) (io), 27 I/O (12) (io), 28 I/O, VREF (9) (io), 29 I/O (6) (io), 30 I/O (~{WRITE}) (3) (io), 31 I/O (~{CS}) (0) (io), 35 VCCO (power), 36 VCCO (power), 38 I/O (DOUT, BUSY) (296) (io), 39 I/O (DIN, D0) (293) (io), 40 I/O (290) (io), 41 I/O, VREF (287) (io), 43 I/O (284) (io), 44 I/O (D1) (281) (io), 46 I/O (D2) (278) (io), 47 I/O (275) (io), 48 I/O, VREF (272) (io), 49 I/O (D3) (269) (io), 50 I/O (266) (io), 51 I/O, IRDY (263) (io), 53 VCCO (power), 54 I/O, TRDY (260) (io), 56 I/O (257) (io), 57 I/O (D4) (254) (io), 58 I/O, VREF (251) (io), 59 I/O (248) (io), 60 I/O (D5) (245) (io), 62 I/O (D6) (242) (io), 63 I/O (239) (io), 65 I/O, VREF (236) (io), 66 I/O (233) (io), 67 I/O (D7) (230) (io), 68 I/O (~{INIT}) (227) (io), 70 VCCO (power), 71 VCCO (power), 74 I/O (220) (io), 75 I/O (217) (io), 76 I/O (214) (io), 77 I/O, VREF (211) (io), 79 I/O (208) (io), 80 I/O (205) (io), 83 I/O (202) (io), 84 I/O (199) (io), 85 I/O, VREF (196) (io), 86 I/O (193) (io), 87 I/O (190) (io), 88 GCK0 (186) (in), 90 VCCO (power), 91 GCK1 (185) (in), 93 I/O (176) (io), 94 I/O, VREF (173) (io), 95 I/O (170) (io), 96 I/O (167) (io), 99 I/O (164) (io), 100 I/O (161) (io), 102 I/O, VREF (158) (io), 103 I/O (155) (io), 107 VCCO (power), 108 VCCO (power), 112 I/O (143) (io), 113 I/O (140) (io), 114 I/O (137) (io), 115 I/O, VREF (134) (io), 117 I/O (131) (io), 118 I/O (128) (io), 120 I/O (125) (io), 121 I/O (122) (io), 122 I/O, VREF (119) (io), 123 I/O (116) (io), 124 I/O (113) (io), 126 I/O, TRDY (110) (io), 127 VCCO (power), 129 I/O, IRDY (107) (io), 130 I/O (104) (io), 131 I/O (101) (io), 132 I/O, VREF (98) (io), 133 I/O (95) (io), 134 I/O (92) (io), 136 I/O (89) (io), 137 I/O (86) (io), 139 I/O, VREF (83) (io), 140 I/O (80) (io), 141 I/O (77) (io), 144 VCCO (power)
part B pins: 2 TCK (io), 8 GND (power), 9 VCCINT (power), 14 VCCINT (power), 17 GND (power), 24 VCCINT (power), 25 GND (power), 32 TDI (io), 33 GND (power), 34 TDO (io), 37 CCLK (299) (io), 42 NC, 45 GND (power), 52 GND (power), 55 VCCINT (power), 61 GND (power), 64 NC, 69 PROGRAM (226) (in), 72 DONE (223) (io), 73 GND (power), 78 NC, 81 GND (power), 82 VCCINT (power), 89 GND (power), 92 VCCINT (power), 97 VCCINT (power), 98 GND (power), 101 NC, 104 NC, 105 NC, 106 M2 (148) (in), 109 M0 (147) (in), 110 GND (power), 111 M1 (146) (in), 116 NC, 119 GND (power), 125 VCCINT (power), 128 GND (power), 135 GND (power), 138 NC, 142 TMS (io), 143 GND (power)
part A text: BANK 0; BANK 1; BANK 7; BANK 2; BANK 6; BANK 3; BANK 5; BANK 4

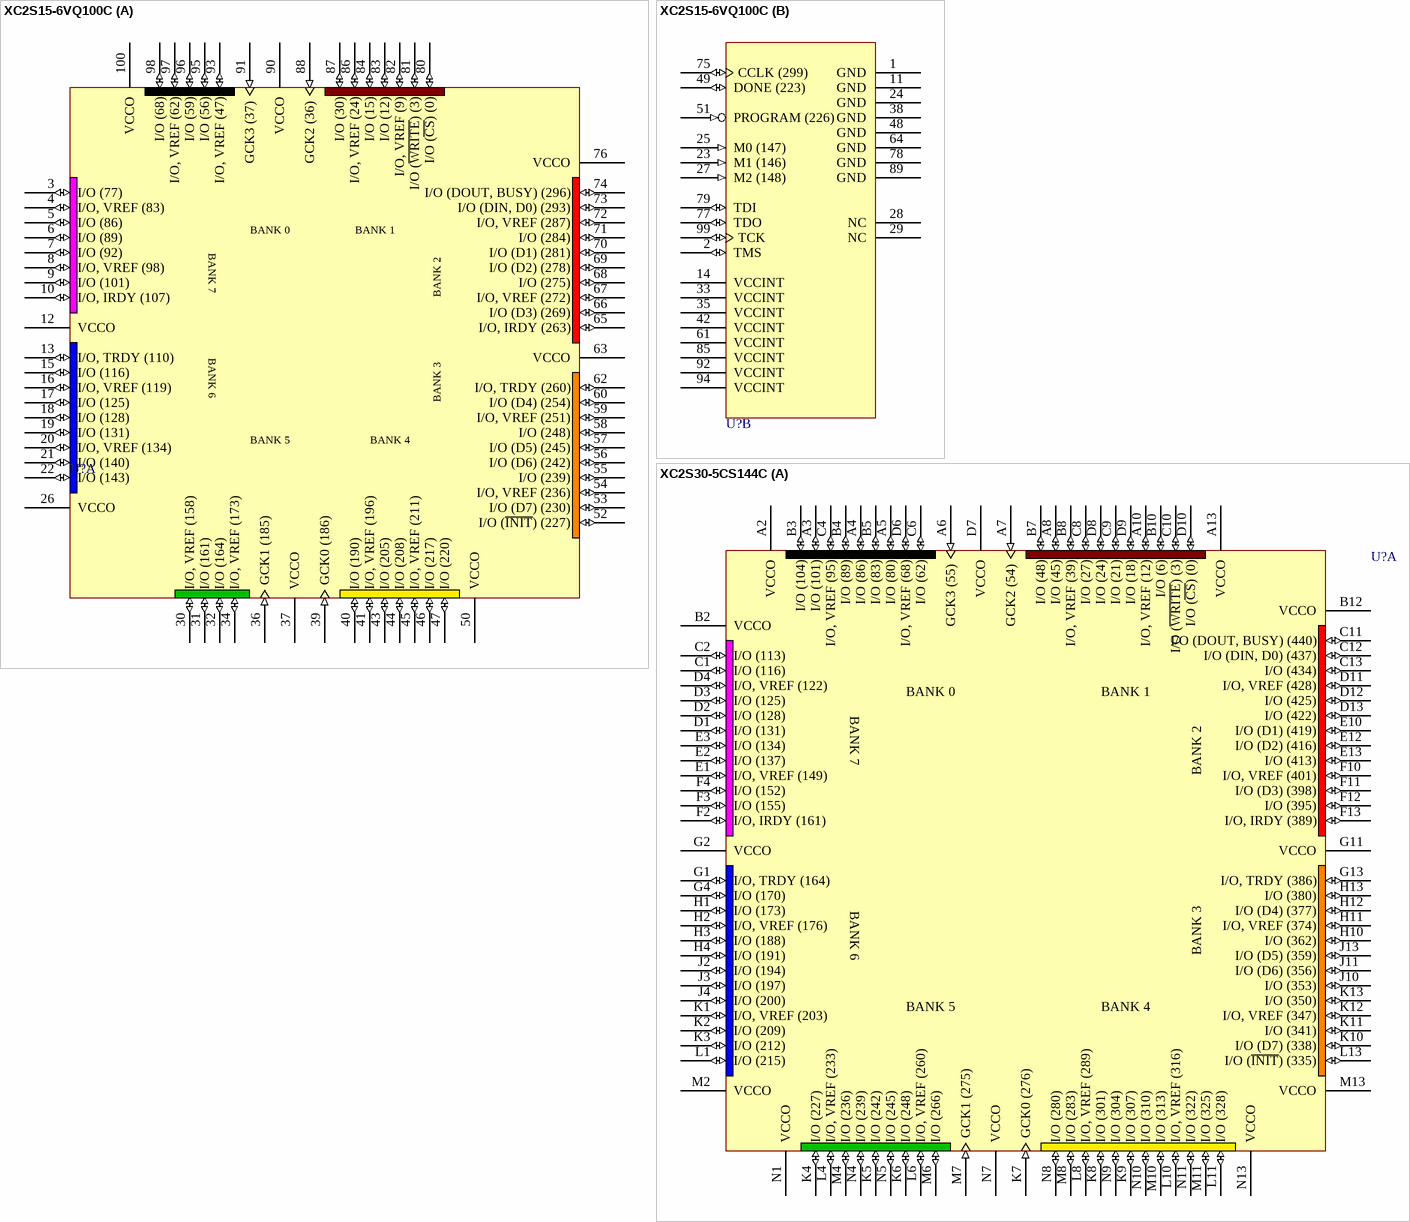
[diagram p4: symbols XC2S15-6VQ100C to XC2S30-5CS144C]

## XC2S15-6VQ100C
designator U?
Spartan-II 2.5V FPGA, 100-Pin VQFP, Higher Performance, Commercial Grade; PackageDocument: ver1.1, Oct-2002; Published: 13-Jul-2001; LatestRevisionDate: 17-Jul-2002; LatestRevisionNote: Re-released for DXP Platform.; DatasheetDocument: Sep-2003; PackageReference: VQ100; Publisher: Altium Limited; Code_JEDEC: MS-026-AED; Code_IPC: SQFP14X14-100
footprint VQ100 (100-Pin Very Thin Quad Flat Pack (VQ100))
3D model XC2S15-VQ100 (100-Pin Very Thin Quad Flat Pack (VQ100))
signal-integrity model XC2S15_VQ100 (Spartan-II)
part A pins: 3 I/O (77) (io), 4 I/O, VREF (83) (io), 5 I/O (86) (io), 6 I/O (89) (io), 7 I/O (92) (io), 8 I/O, VREF (98) (io), 9 I/O (101) (io), 10 I/O, IRDY (107) (io), 12 VCCO (power), 13 I/O, TRDY (110) (io), 15 I/O (116) (io), 16 I/O, VREF (119) (io), 17 I/O (125) (io), 18 I/O (128) (io), 19 I/O (131) (io), 20 I/O, VREF (134) (io), 21 I/O (140) (io), 22 I/O (143) (io), 26 VCCO (power), 30 I/O, VREF (158) (io), 31 I/O (161) (io), 32 I/O (164) (io), 34 I/O, VREF (173) (io), 36 GCK1 (185) (in), 37 VCCO (power), 39 GCK0 (186) (in), 40 I/O (190) (io), 41 I/O, VREF (196) (io), 43 I/O (205) (io), 44 I/O (208) (io), 45 I/O, VREF (211) (io), 46 I/O (217) (io), 47 I/O (220) (io), 50 VCCO (power), 52 I/O (~{INIT}) (227) (io), 53 I/O (D7) (230) (io), 54 I/O, VREF (236) (io), 55 I/O (239) (io), 56 I/O (D6) (242) (io), 57 I/O (D5) (245) (io), 58 I/O (248) (io), 59 I/O, VREF (251) (io), 60 I/O (D4) (254) (io), 62 I/O, TRDY (260) (io), 63 VCCO (power), 65 I/O, IRDY (263) (io), 66 I/O (D3) (269) (io), 67 I/O, VREF (272) (io), 68 I/O (275) (io), 69 I/O (D2) (278) (io), 70 I/O (D1) (281) (io), 71 I/O (284) (io), 72 I/O, VREF (287) (io), 73 I/O (DIN, D0) (293) (io), 74 I/O (DOUT, BUSY) (296) (io), 76 VCCO (power), 80 I/O (~{CS}) (0) (io), 81 I/O (~{WRITE}) (3) (io), 82 I/O, VREF (9) (io), 83 I/O (12) (io), 84 I/O (15) (io), 86 I/O, VREF (24) (io), 87 I/O (30) (io), 88 GCK2 (36) (in), 90 VCCO (power), 91 GCK3 (37) (in), 93 I/O, VREF (47) (io), 95 I/O (56) (io), 96 I/O (59) (io), 97 I/O, VREF (62) (io), 98 I/O (68) (io), 100 VCCO (power)
part B pins: 1 GND (power), 2 TMS (io), 11 GND (power), 14 VCCINT (power), 23 M1 (146) (in), 24 GND (power), 25 M0 (147) (in), 27 M2 (148) (in), 28 NC, 29 NC, 33 VCCINT (power), 35 VCCINT (power), 38 GND (power), 42 VCCINT (power), 48 GND (power), 49 DONE (223) (io), 51 PROGRAM (226) (in), 61 VCCINT (power), 64 GND (power), 75 CCLK (299) (io), 77 TDO (io), 78 GND (power), 79 TDI (io), 85 VCCINT (power), 89 GND (power), 92 VCCINT (power), 94 VCCINT (power), 99 TCK (io)
part A text: BANK 0; BANK 1; BANK 7; BANK 2; BANK 6; BANK 3; BANK 5; BANK 4

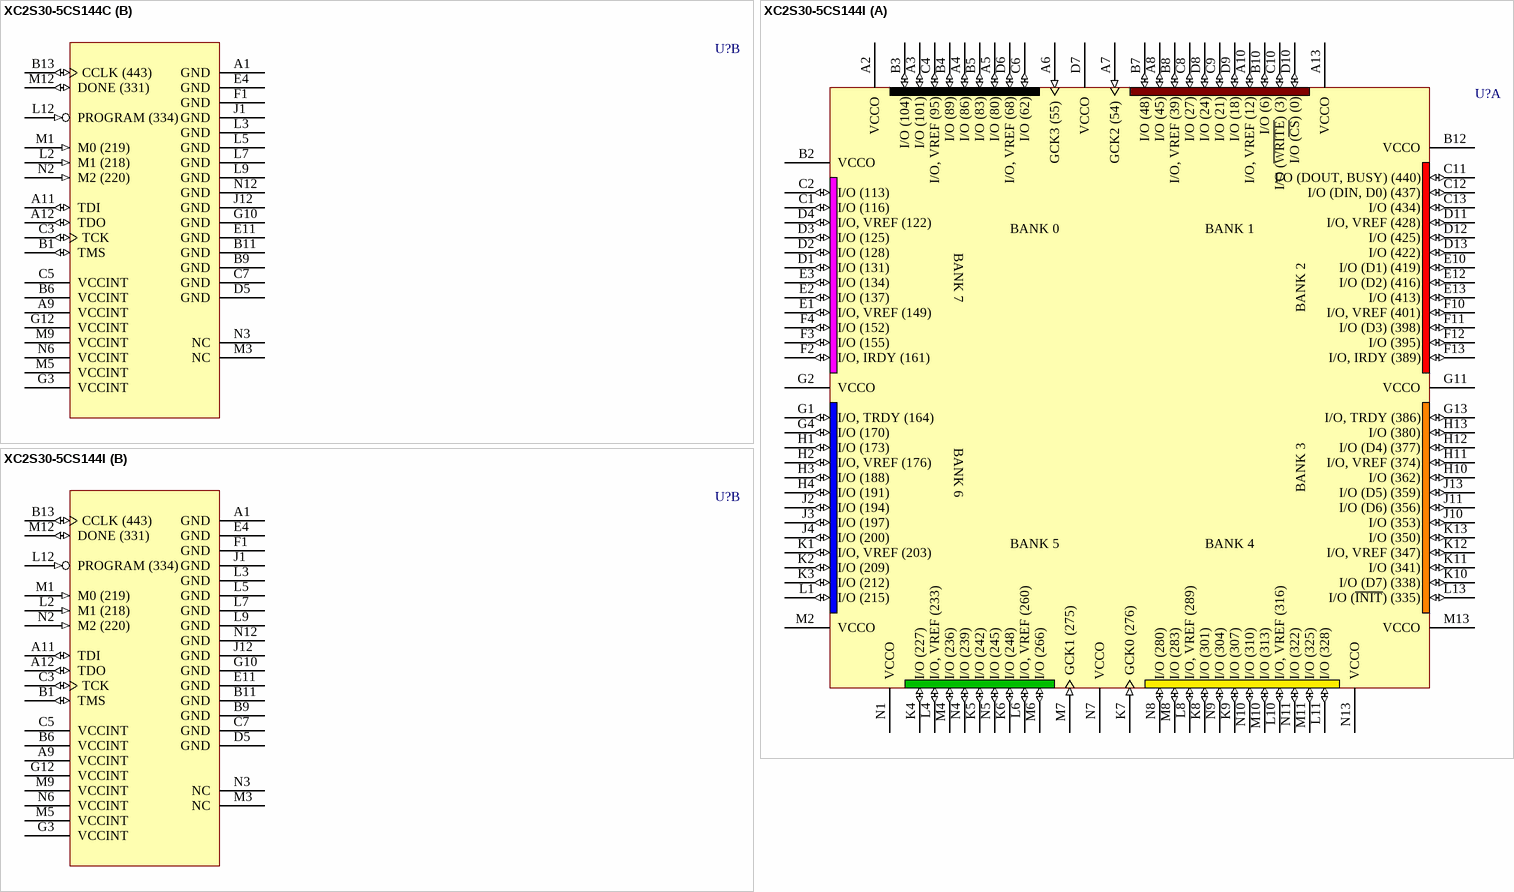
[diagram p5: symbols XC2S30-5CS144C to XC2S30-5CS144I]

## XC2S30-5CS144C
designator U?
Spartan-II 2.5V FPGA, 144-Ball CSBGA, Standard Performance, Commercial Grade; PackageDocument: ver1.0, Jun-2000; Published: 13-Jul-2001; LatestRevisionDate: 17-Sep-2003; LatestRevisionNote: PCB Footprint dimensions updated; DatasheetDocument: Sep-2003; PackageReference: CS144; Publisher: Altium Limited
footprint CS144 (144-Ball Chip Scale Ball Grid Array (CS144))
3D model XC2S30-CS144 (144-Ball Chip Scale Ball Grid Array (CS144))
signal-integrity model XC2S30_CS144 (Spartan-II)
part A pins: A2 VCCO (power), A3 I/O (101) (io), A4 I/O (86) (io), A5 I/O (80) (io), A6 GCK3 (55) (in), A7 GCK2 (54) (in), A8 I/O (45) (io), A10 I/O, VREF (12) (io), A13 VCCO (power), B2 VCCO (power), B3 I/O (104) (io), B4 I/O (89) (io), B5 I/O (83) (io), B7 I/O (48) (io), B8 I/O, VREF (39) (io), B10 I/O (6) (io), B12 VCCO (power), C1 I/O (116) (io), C2 I/O (113) (io), C4 I/O, VREF (95) (io), C6 I/O (62) (io), C8 I/O (27) (io), C9 I/O (21) (io), C10 I/O (~{WRITE}) (3) (io), C11 I/O (DOUT, BUSY) (440) (io), C12 I/O (DIN, D0) (437) (io), C13 I/O (434) (io), D1 I/O (131) (io), D2 I/O (128) (io), D3 I/O (125) (io), D4 I/O, VREF (122) (io), D6 I/O, VREF (68) (io), D7 VCCO (power), D8 I/O (24) (io), D9 I/O (18) (io), D10 I/O (~{CS}) (0) (io), D11 I/O, VREF (428) (io), D12 I/O (425) (io), D13 I/O (422) (io), E1 I/O, VREF (149) (io), E2 I/O (137) (io), E3 I/O (134) (io), E10 I/O (D1) (419) (io), E12 I/O (D2) (416) (io), E13 I/O (413) (io), F2 I/O, IRDY (161) (io), F3 I/O (155) (io), F4 I/O (152) (io), F10 I/O, VREF (401) (io), F11 I/O (D3) (398) (io), F12 I/O (395) (io), F13 I/O, IRDY (389) (io), G1 I/O, TRDY (164) (io), G2 VCCO (power), G4 I/O (170) (io), G11 VCCO (power), G13 I/O, TRDY (386) (io), H1 I/O (173) (io), H2 I/O, VREF (176) (io), H3 I/O (188) (io), H4 I/O (191) (io), H10 I/O (362) (io), H11 I/O, VREF (374) (io), H12 I/O (D4) (377) (io), H13 I/O (380) (io), J2 I/O (194) (io), J3 I/O (197) (io), J4 I/O (200) (io), J10 I/O (353) (io), J11 I/O (D6) (356) (io), J13 I/O (D5) (359) (io), K1 I/O, VREF (203) (io), K2 I/O (209) (io), K3 I/O (212) (io), K4 I/O (227) (io), K5 I/O (242) (io), K6 I/O (248) (io), K7 GCK0 (276) (in), K8 I/O (301) (io), K9 I/O (307) (io), K10 I/O (D7) (338) (io), K11 I/O (341) (io), K12 I/O, VREF (347) (io), K13 I/O (350) (io), L1 I/O (215) (io), L4 I/O, VREF (233) (io), L6 I/O, VREF (260) (io), L8 I/O, VREF (289) (io), L10 I/O, VREF (316) (io), L11 I/O (328) (io), L13 I/O (~{INIT}) (335) (io), M2 VCCO (power), M4 I/O (236) (io), M6 I/O (266) (io), M7 GCK1 (275) (in), M8 I/O (283) (io), M10 I/O (313) (io), M11 I/O (325) (io), M13 VCCO (power), N1 VCCO (power), N4 I/O (239) (io), N5 I/O (245) (io), N7 VCCO (power), N8 I/O (280) (io), N9 I/O (304) (io), N10 I/O (310) (io), N11 I/O (322) (io), N13 VCCO (power)
part B pins: A1 GND (power), A9 VCCINT (power), A11 TDI (io), A12 TDO (io), B1 TMS (io), B6 VCCINT (power), B9 GND (power), B11 GND (power), B13 CCLK (443) (io), C3 TCK (io), C5 VCCINT (power), C7 GND (power), D5 GND (power), E4 GND (power), E11 GND (power), F1 GND (power), G3 VCCINT (power), G10 GND (power), G12 VCCINT (power), J1 GND (power), J12 GND (power), L2 M1 (218) (in), L3 GND (power), L5 GND (power), L7 GND (power), L9 GND (power), L12 PROGRAM (334) (in), M1 M0 (219) (in), M3 NC, M5 VCCINT (power), M9 VCCINT (power), M12 DONE (331) (io), N2 M2 (220) (in), N3 NC, N6 VCCINT (power), N12 GND (power)
part A text: BANK 0; BANK 1; BANK 7; BANK 2; BANK 6; BANK 3; BANK 5; BANK 4

## XC2S30-5CS144I
designator U?
Spartan-II 2.5V FPGA, 144-Ball CSBGA, Standard Performance, Industrial Grade; PackageDocument: ver1.0, Jun-2000; Published: 13-Jul-2001; LatestRevisionDate: 17-Sep-2003; LatestRevisionNote: PCB Footprint dimensions updated; DatasheetDocument: Sep-2003; PackageReference: CS144; Publisher: Altium Limited
footprint CS144 (144-Ball Chip Scale Ball Grid Array (CS144))
3D model XC2S30-CS144 (144-Ball Chip Scale Ball Grid Array (CS144))
signal-integrity model XC2S30_CS144 (Spartan-II)
part A pins: A2 VCCO (power), A3 I/O (101) (io), A4 I/O (86) (io), A5 I/O (80) (io), A6 GCK3 (55) (in), A7 GCK2 (54) (in), A8 I/O (45) (io), A10 I/O, VREF (12) (io), A13 VCCO (power), B2 VCCO (power), B3 I/O (104) (io), B4 I/O (89) (io), B5 I/O (83) (io), B7 I/O (48) (io), B8 I/O, VREF (39) (io), B10 I/O (6) (io), B12 VCCO (power), C1 I/O (116) (io), C2 I/O (113) (io), C4 I/O, VREF (95) (io), C6 I/O (62) (io), C8 I/O (27) (io), C9 I/O (21) (io), C10 I/O (~{WRITE}) (3) (io), C11 I/O (DOUT, BUSY) (440) (io), C12 I/O (DIN, D0) (437) (io), C13 I/O (434) (io), D1 I/O (131) (io), D2 I/O (128) (io), D3 I/O (125) (io), D4 I/O, VREF (122) (io), D6 I/O, VREF (68) (io), D7 VCCO (power), D8 I/O (24) (io), D9 I/O (18) (io), D10 I/O (~{CS}) (0) (io), D11 I/O, VREF (428) (io), D12 I/O (425) (io), D13 I/O (422) (io), E1 I/O, VREF (149) (io), E2 I/O (137) (io), E3 I/O (134) (io), E10 I/O (D1) (419) (io), E12 I/O (D2) (416) (io), E13 I/O (413) (io), F2 I/O, IRDY (161) (io), F3 I/O (155) (io), F4 I/O (152) (io), F10 I/O, VREF (401) (io), F11 I/O (D3) (398) (io), F12 I/O (395) (io), F13 I/O, IRDY (389) (io), G1 I/O, TRDY (164) (io), G2 VCCO (power), G4 I/O (170) (io), G11 VCCO (power), G13 I/O, TRDY (386) (io), H1 I/O (173) (io), H2 I/O, VREF (176) (io), H3 I/O (188) (io), H4 I/O (191) (io), H10 I/O (362) (io), H11 I/O, VREF (374) (io), H12 I/O (D4) (377) (io), H13 I/O (380) (io), J2 I/O (194) (io), J3 I/O (197) (io), J4 I/O (200) (io), J10 I/O (353) (io), J11 I/O (D6) (356) (io), J13 I/O (D5) (359) (io), K1 I/O, VREF (203) (io), K2 I/O (209) (io), K3 I/O (212) (io), K4 I/O (227) (io), K5 I/O (242) (io), K6 I/O (248) (io), K7 GCK0 (276) (in), K8 I/O (301) (io), K9 I/O (307) (io), K10 I/O (D7) (338) (io), K11 I/O (341) (io), K12 I/O, VREF (347) (io), K13 I/O (350) (io), L1 I/O (215) (io), L4 I/O, VREF (233) (io), L6 I/O, VREF (260) (io), L8 I/O, VREF (289) (io), L10 I/O, VREF (316) (io), L11 I/O (328) (io), L13 I/O (~{INIT}) (335) (io), M2 VCCO (power), M4 I/O (236) (io), M6 I/O (266) (io), M7 GCK1 (275) (in), M8 I/O (283) (io), M10 I/O (313) (io), M11 I/O (325) (io), M13 VCCO (power), N1 VCCO (power), N4 I/O (239) (io), N5 I/O (245) (io), N7 VCCO (power), N8 I/O (280) (io), N9 I/O (304) (io), N10 I/O (310) (io), N11 I/O (322) (io), N13 VCCO (power)
part B pins: A1 GND (power), A9 VCCINT (power), A11 TDI (io), A12 TDO (io), B1 TMS (io), B6 VCCINT (power), B9 GND (power), B11 GND (power), B13 CCLK (443) (io), C3 TCK (io), C5 VCCINT (power), C7 GND (power), D5 GND (power), E4 GND (power), E11 GND (power), F1 GND (power), G3 VCCINT (power), G10 GND (power), G12 VCCINT (power), J1 GND (power), J12 GND (power), L2 M1 (218) (in), L3 GND (power), L5 GND (power), L7 GND (power), L9 GND (power), L12 PROGRAM (334) (in), M1 M0 (219) (in), M3 NC, M5 VCCINT (power), M9 VCCINT (power), M12 DONE (331) (io), N2 M2 (220) (in), N3 NC, N6 VCCINT (power), N12 GND (power)
part A text: BANK 0; BANK 1; BANK 7; BANK 2; BANK 6; BANK 3; BANK 5; BANK 4

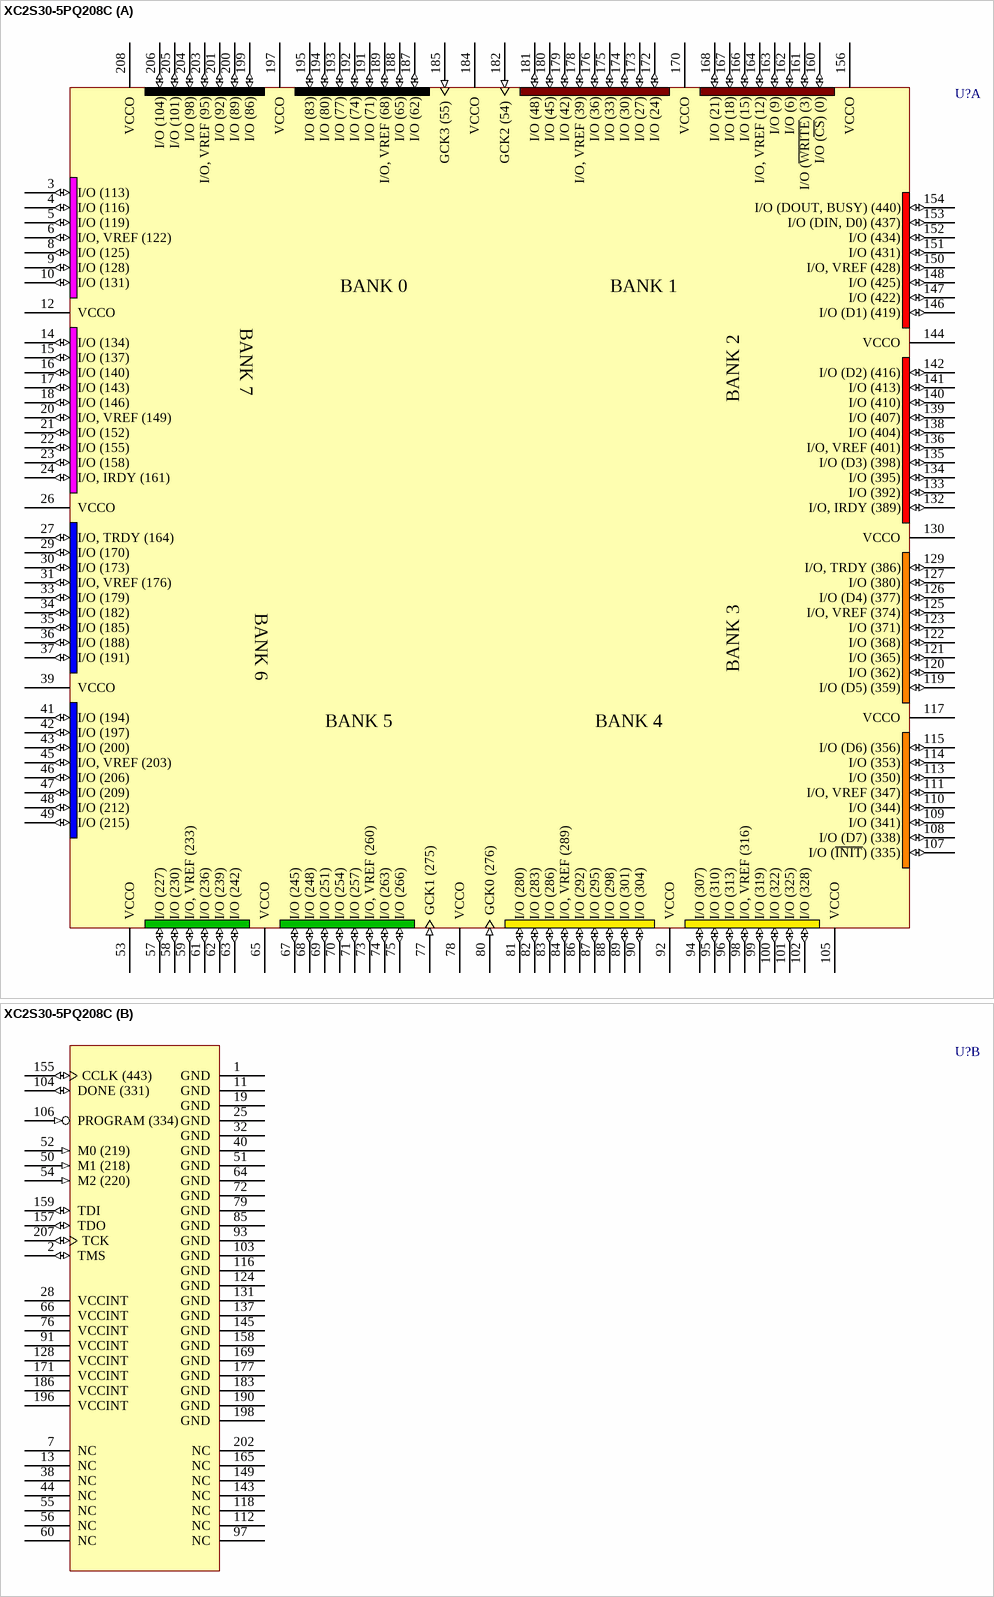
[diagram p6: symbol XC2S30-5PQ208C]

## XC2S30-5PQ208C
designator U?
Spartan-II 2.5V FPGA, 208-Pin PQFP, Standard Performance, Commercial Grade; PackageDocument: ver1.1, Oct-2002; Published: 13-Jul-2001; LatestRevisionDate: 17-Jul-2002; LatestRevisionNote: Re-released for DXP Platform.; DatasheetDocument: Sep-2003; PackageReference: PQ208; Publisher: Altium Limited; Code_JEDEC: MS-029-FA-1
footprint PQ208 (208-Pin Plastic Quad Flat Pack (PQ208))
3D model XC2S30-PQ208 (208-Pin Plastic Quad Flat Pack (PQ208))
signal-integrity model XC2S30_PQ208 (Spartan-II)
part A pins: 3 I/O (113) (io), 4 I/O (116) (io), 5 I/O (119) (io), 6 I/O, VREF (122) (io), 8 I/O (125) (io), 9 I/O (128) (io), 10 I/O (131) (io), 12 VCCO (power), 14 I/O (134) (io), 15 I/O (137) (io), 16 I/O (140) (io), 17 I/O (143) (io), 18 I/O (146) (io), 20 I/O, VREF (149) (io), 21 I/O (152) (io), 22 I/O (155) (io), 23 I/O (158) (io), 24 I/O, IRDY (161) (io), 26 VCCO (power), 27 I/O, TRDY (164) (io), 29 I/O (170) (io), 30 I/O (173) (io), 31 I/O, VREF (176) (io), 33 I/O (179) (io), 34 I/O (182) (io), 35 I/O (185) (io), 36 I/O (188) (io), 37 I/O (191) (io), 39 VCCO (power), 41 I/O (194) (io), 42 I/O (197) (io), 43 I/O (200) (io), 45 I/O, VREF (203) (io), 46 I/O (206) (io), 47 I/O (209) (io), 48 I/O (212) (io), 49 I/O (215) (io), 53 VCCO (power), 57 I/O (227) (io), 58 I/O (230) (io), 59 I/O, VREF (233) (io), 61 I/O (236) (io), 62 I/O (239) (io), 63 I/O (242) (io), 65 VCCO (power), 67 I/O (245) (io), 68 I/O (248) (io), 69 I/O (251) (io), 70 I/O (254) (io), 71 I/O (257) (io), 73 I/O, VREF (260) (io), 74 I/O (263) (io), 75 I/O (266) (io), 77 GCK1 (275) (in), 78 VCCO (power), 80 GCK0 (276) (in), 81 I/O (280) (io), 82 I/O (283) (io), 83 I/O (286) (io), 84 I/O, VREF (289) (io), 86 I/O (292) (io), 87 I/O (295) (io), 88 I/O (298) (io), 89 I/O (301) (io), 90 I/O (304) (io), 92 VCCO (power), 94 I/O (307) (io), 95 I/O (310) (io), 96 I/O (313) (io), 98 I/O, VREF (316) (io), 99 I/O (319) (io), 100 I/O (322) (io), 101 I/O (325) (io), 102 I/O (328) (io), 105 VCCO (power), 107 I/O (~{INIT}) (335) (io), 108 I/O (D7) (338) (io), 109 I/O (341) (io), 110 I/O (344) (io), 111 I/O, VREF (347) (io), 113 I/O (350) (io), 114 I/O (353) (io), 115 I/O (D6) (356) (io), 117 VCCO (power), 119 I/O (D5) (359) (io), 120 I/O (362) (io), 121 I/O (365) (io), 122 I/O (368) (io), 123 I/O (371) (io), 125 I/O, VREF (374) (io), 126 I/O (D4) (377) (io), 127 I/O (380) (io), 129 I/O, TRDY (386) (io), 130 VCCO (power), 132 I/O, IRDY (389) (io), 133 I/O (392) (io), 134 I/O (395) (io), 135 I/O (D3) (398) (io), 136 I/O, VREF (401) (io), 138 I/O (404) (io), 139 I/O (407) (io), 140 I/O (410) (io), 141 I/O (413) (io), 142 I/O (D2) (416) (io), 144 VCCO (power), 146 I/O (D1) (419) (io), 147 I/O (422) (io), 148 I/O (425) (io), 150 I/O, VREF (428) (io), 151 I/O (431) (io), 152 I/O (434) (io), 153 I/O (DIN, D0) (437) (io), 154 I/O (DOUT, BUSY) (440) (io), 156 VCCO (power), 160 I/O (~{CS}) (0) (io), 161 I/O (~{WRITE}) (3) (io), 162 I/O (6) (io), 163 I/O (9) (io), 164 I/O, VREF (12) (io), 166 I/O (15) (io), 167 I/O (18) (io), 168 I/O (21) (io), 170 VCCO (power), 172 I/O (24) (io), 173 I/O (27) (io), 174 I/O (30) (io), 175 I/O (33) (io), 176 I/O (36) (io), 178 I/O, VREF (39) (io), 179 I/O (42) (io), 180 I/O (45) (io), 181 I/O (48) (io), 182 GCK2 (54) (in), 184 VCCO (power), 185 GCK3 (55) (in), 187 I/O (62) (io), 188 I/O (65) (io), 189 I/O, VREF (68) (io), 191 I/O (71) (io), 192 I/O (74) (io), 193 I/O (77) (io), 194 I/O (80) (io), 195 I/O (83) (io), 197 VCCO (power), 199 I/O (86) (io), 200 I/O (89) (io), 201 I/O (92) (io), 203 I/O, VREF (95) (io), 204 I/O (98) (io), 205 I/O (101) (io), 206 I/O (104) (io), 208 VCCO (power)
part B pins: 1 GND (power), 2 TMS (io), 7 NC, 11 GND (power), 13 NC, 19 GND (power), 25 GND (power), 28 VCCINT (power), 32 GND (power), 38 NC, 40 GND (power), 44 NC, 50 M1 (218) (in), 51 GND (power), 52 M0 (219) (in), 54 M2 (220) (in), 55 NC, 56 NC, 60 NC, 64 GND (power), 66 VCCINT (power), 72 GND (power), 76 VCCINT (power), 79 GND (power), 85 GND (power), 91 VCCINT (power), 93 GND (power), 97 NC, 103 GND (power), 104 DONE (331) (io), 106 PROGRAM (334) (in), 112 NC, 116 GND (power), 118 NC, 124 GND (power), 128 VCCINT (power), 131 GND (power), 137 GND (power), 143 NC, 145 GND (power), 149 NC, 155 CCLK (443) (io), 157 TDO (io), 158 GND (power), 159 TDI (io), 165 NC, 169 GND (power), 171 VCCINT (power), 177 GND (power), 183 GND (power), 186 VCCINT (power), 190 GND (power), 196 VCCINT (power), 198 GND (power), 202 NC, 207 TCK (io)
part A text: BANK 0; BANK 1; BANK 7; BANK 2; BANK 6; BANK 3; BANK 5; BANK 4

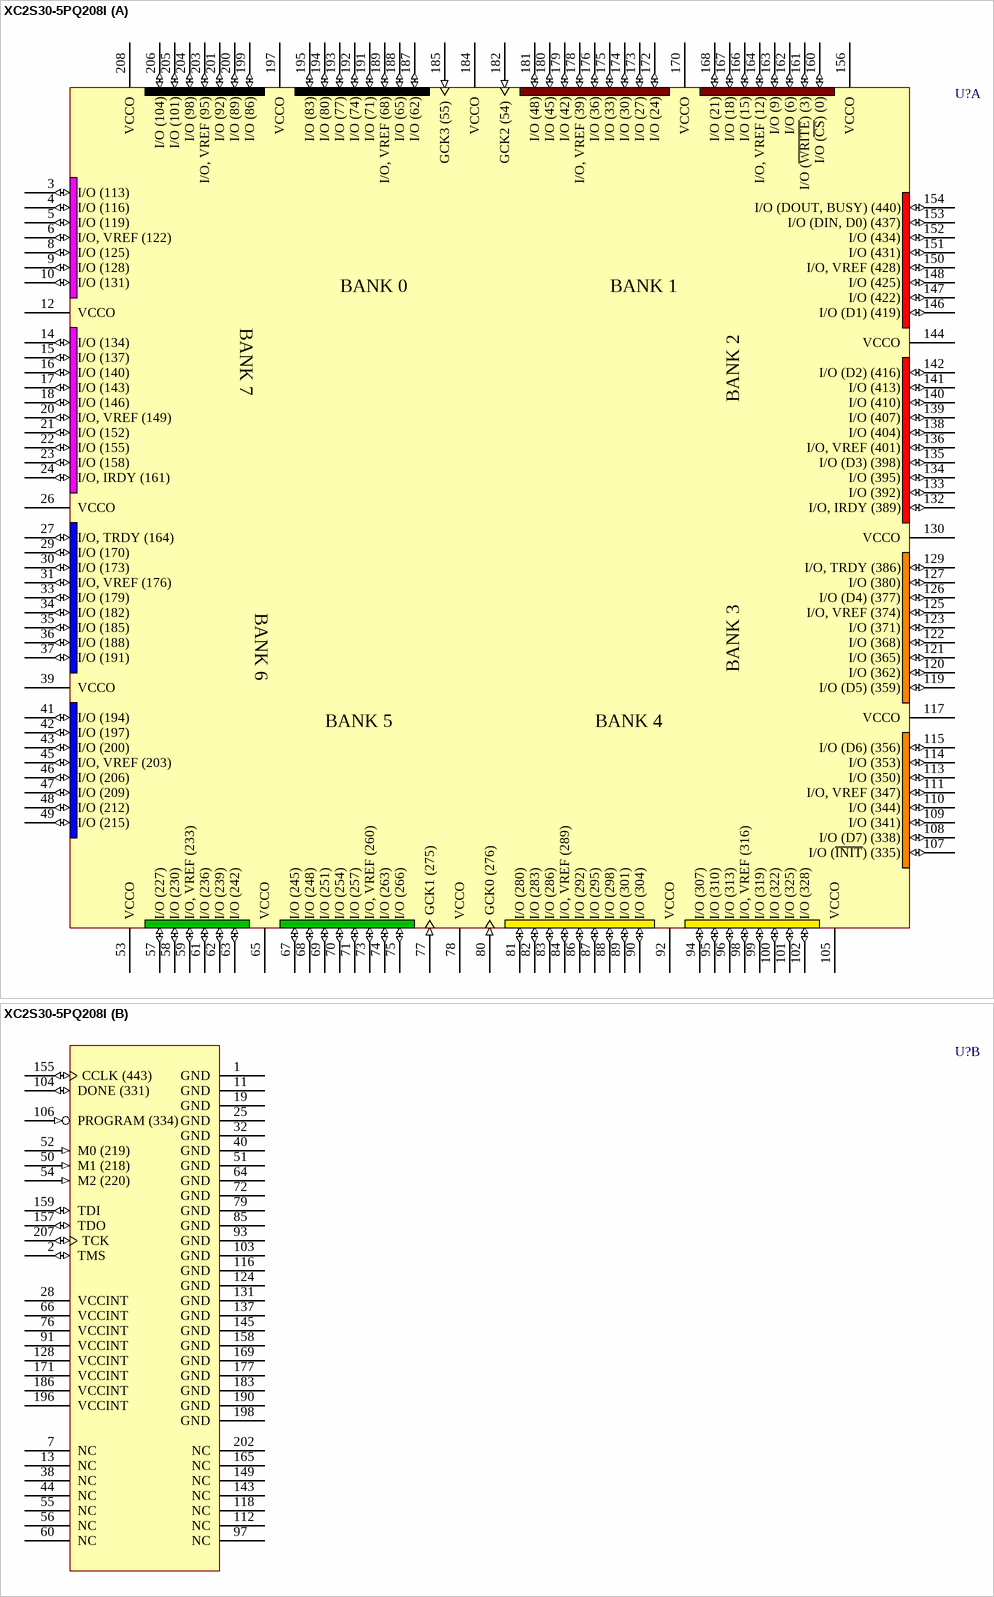
[diagram p7: symbol XC2S30-5PQ208I]

## XC2S30-5PQ208I
designator U?
Spartan-II 2.5V FPGA, 208-Pin PQFP, Standard Performance, Industrial Grade; PackageDocument: ver1.1, Oct-2002; Published: 13-Jul-2001; LatestRevisionDate: 17-Jul-2002; LatestRevisionNote: Re-released for DXP Platform.; DatasheetDocument: Sep-2003; PackageReference: PQ208; Publisher: Altium Limited; Code_JEDEC: MS-029-FA-1
footprint PQ208 (208-Pin Plastic Quad Flat Pack (PQ208))
3D model XC2S30-PQ208 (208-Pin Plastic Quad Flat Pack (PQ208))
signal-integrity model XC2S30_PQ208 (Spartan-II)
part A pins: 3 I/O (113) (io), 4 I/O (116) (io), 5 I/O (119) (io), 6 I/O, VREF (122) (io), 8 I/O (125) (io), 9 I/O (128) (io), 10 I/O (131) (io), 12 VCCO (power), 14 I/O (134) (io), 15 I/O (137) (io), 16 I/O (140) (io), 17 I/O (143) (io), 18 I/O (146) (io), 20 I/O, VREF (149) (io), 21 I/O (152) (io), 22 I/O (155) (io), 23 I/O (158) (io), 24 I/O, IRDY (161) (io), 26 VCCO (power), 27 I/O, TRDY (164) (io), 29 I/O (170) (io), 30 I/O (173) (io), 31 I/O, VREF (176) (io), 33 I/O (179) (io), 34 I/O (182) (io), 35 I/O (185) (io), 36 I/O (188) (io), 37 I/O (191) (io), 39 VCCO (power), 41 I/O (194) (io), 42 I/O (197) (io), 43 I/O (200) (io), 45 I/O, VREF (203) (io), 46 I/O (206) (io), 47 I/O (209) (io), 48 I/O (212) (io), 49 I/O (215) (io), 53 VCCO (power), 57 I/O (227) (io), 58 I/O (230) (io), 59 I/O, VREF (233) (io), 61 I/O (236) (io), 62 I/O (239) (io), 63 I/O (242) (io), 65 VCCO (power), 67 I/O (245) (io), 68 I/O (248) (io), 69 I/O (251) (io), 70 I/O (254) (io), 71 I/O (257) (io), 73 I/O, VREF (260) (io), 74 I/O (263) (io), 75 I/O (266) (io), 77 GCK1 (275) (in), 78 VCCO (power), 80 GCK0 (276) (in), 81 I/O (280) (io), 82 I/O (283) (io), 83 I/O (286) (io), 84 I/O, VREF (289) (io), 86 I/O (292) (io), 87 I/O (295) (io), 88 I/O (298) (io), 89 I/O (301) (io), 90 I/O (304) (io), 92 VCCO (power), 94 I/O (307) (io), 95 I/O (310) (io), 96 I/O (313) (io), 98 I/O, VREF (316) (io), 99 I/O (319) (io), 100 I/O (322) (io), 101 I/O (325) (io), 102 I/O (328) (io), 105 VCCO (power), 107 I/O (~{INIT}) (335) (io), 108 I/O (D7) (338) (io), 109 I/O (341) (io), 110 I/O (344) (io), 111 I/O, VREF (347) (io), 113 I/O (350) (io), 114 I/O (353) (io), 115 I/O (D6) (356) (io), 117 VCCO (power), 119 I/O (D5) (359) (io), 120 I/O (362) (io), 121 I/O (365) (io), 122 I/O (368) (io), 123 I/O (371) (io), 125 I/O, VREF (374) (io), 126 I/O (D4) (377) (io), 127 I/O (380) (io), 129 I/O, TRDY (386) (io), 130 VCCO (power), 132 I/O, IRDY (389) (io), 133 I/O (392) (io), 134 I/O (395) (io), 135 I/O (D3) (398) (io), 136 I/O, VREF (401) (io), 138 I/O (404) (io), 139 I/O (407) (io), 140 I/O (410) (io), 141 I/O (413) (io), 142 I/O (D2) (416) (io), 144 VCCO (power), 146 I/O (D1) (419) (io), 147 I/O (422) (io), 148 I/O (425) (io), 150 I/O, VREF (428) (io), 151 I/O (431) (io), 152 I/O (434) (io), 153 I/O (DIN, D0) (437) (io), 154 I/O (DOUT, BUSY) (440) (io), 156 VCCO (power), 160 I/O (~{CS}) (0) (io), 161 I/O (~{WRITE}) (3) (io), 162 I/O (6) (io), 163 I/O (9) (io), 164 I/O, VREF (12) (io), 166 I/O (15) (io), 167 I/O (18) (io), 168 I/O (21) (io), 170 VCCO (power), 172 I/O (24) (io), 173 I/O (27) (io), 174 I/O (30) (io), 175 I/O (33) (io), 176 I/O (36) (io), 178 I/O, VREF (39) (io), 179 I/O (42) (io), 180 I/O (45) (io), 181 I/O (48) (io), 182 GCK2 (54) (in), 184 VCCO (power), 185 GCK3 (55) (in), 187 I/O (62) (io), 188 I/O (65) (io), 189 I/O, VREF (68) (io), 191 I/O (71) (io), 192 I/O (74) (io), 193 I/O (77) (io), 194 I/O (80) (io), 195 I/O (83) (io), 197 VCCO (power), 199 I/O (86) (io), 200 I/O (89) (io), 201 I/O (92) (io), 203 I/O, VREF (95) (io), 204 I/O (98) (io), 205 I/O (101) (io), 206 I/O (104) (io), 208 VCCO (power)
part B pins: 1 GND (power), 2 TMS (io), 7 NC, 11 GND (power), 13 NC, 19 GND (power), 25 GND (power), 28 VCCINT (power), 32 GND (power), 38 NC, 40 GND (power), 44 NC, 50 M1 (218) (in), 51 GND (power), 52 M0 (219) (in), 54 M2 (220) (in), 55 NC, 56 NC, 60 NC, 64 GND (power), 66 VCCINT (power), 72 GND (power), 76 VCCINT (power), 79 GND (power), 85 GND (power), 91 VCCINT (power), 93 GND (power), 97 NC, 103 GND (power), 104 DONE (331) (io), 106 PROGRAM (334) (in), 112 NC, 116 GND (power), 118 NC, 124 GND (power), 128 VCCINT (power), 131 GND (power), 137 GND (power), 143 NC, 145 GND (power), 149 NC, 155 CCLK (443) (io), 157 TDO (io), 158 GND (power), 159 TDI (io), 165 NC, 169 GND (power), 171 VCCINT (power), 177 GND (power), 183 GND (power), 186 VCCINT (power), 190 GND (power), 196 VCCINT (power), 198 GND (power), 202 NC, 207 TCK (io)
part A text: BANK 0; BANK 1; BANK 7; BANK 2; BANK 6; BANK 3; BANK 5; BANK 4

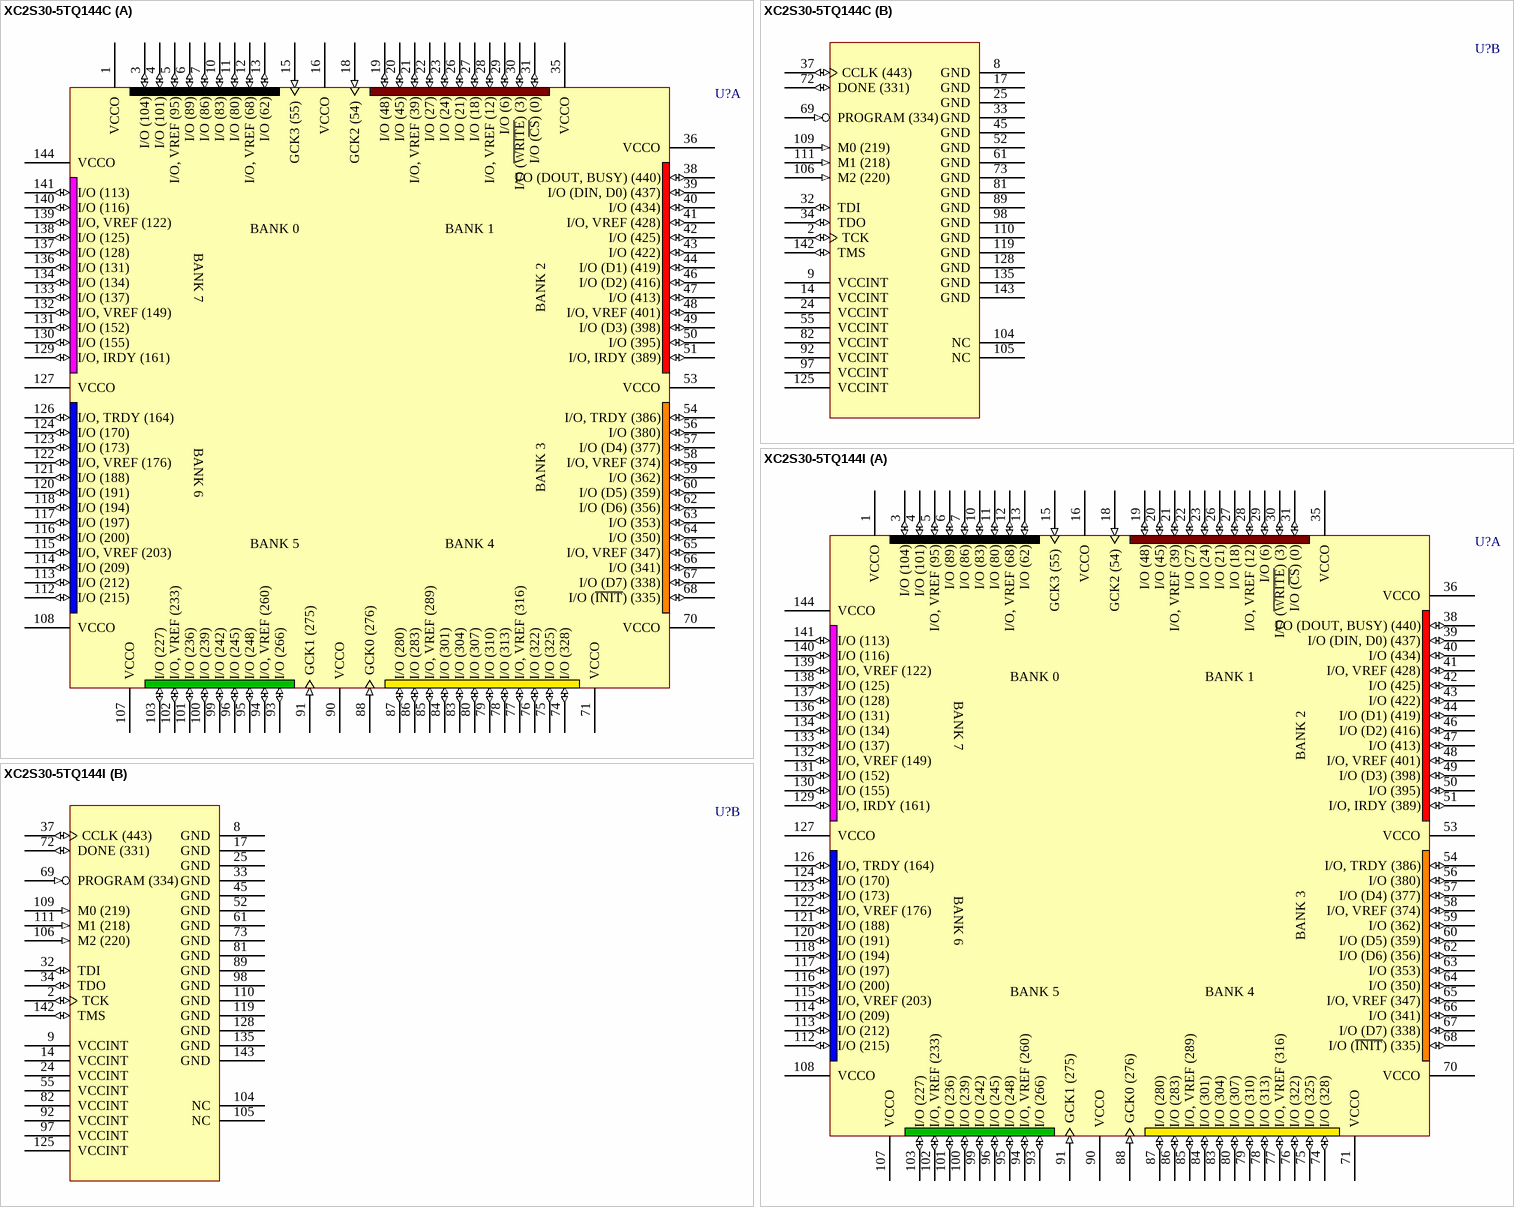
[diagram p8: symbols XC2S30-5TQ144C to XC2S30-5TQ144I]

## XC2S30-5TQ144C
designator U?
Spartan-II 2.5V FPGA, 144-Pin TQFP, Standard Performance, Commercial Grade; PackageDocument: ver1.1, Oct-2002; Published: 13-Jul-2001; LatestRevisionDate: 17-Jul-2002; LatestRevisionNote: Re-released for DXP Platform.; DatasheetDocument: Sep-2003; PackageReference: TQ144; Publisher: Altium Limited; Code_JEDEC: MS-026-BFB; Code_IPC: SQFP20X20-144
footprint TQ144 (144-Pin Thin Quad Flat Pack (TQ144))
3D model XC2S30-TQ144 (144-Pin Thin Quad Flat Pack (TQ144))
signal-integrity model XC2S30_TQ144 (Spartan-II)
part A pins: 1 VCCO (power), 3 I/O (104) (io), 4 I/O (101) (io), 5 I/O, VREF (95) (io), 6 I/O (89) (io), 7 I/O (86) (io), 10 I/O (83) (io), 11 I/O (80) (io), 12 I/O, VREF (68) (io), 13 I/O (62) (io), 15 GCK3 (55) (in), 16 VCCO (power), 18 GCK2 (54) (in), 19 I/O (48) (io), 20 I/O (45) (io), 21 I/O, VREF (39) (io), 22 I/O (27) (io), 23 I/O (24) (io), 26 I/O (21) (io), 27 I/O (18) (io), 28 I/O, VREF (12) (io), 29 I/O (6) (io), 30 I/O (~{WRITE}) (3) (io), 31 I/O (~{CS}) (0) (io), 35 VCCO (power), 36 VCCO (power), 38 I/O (DOUT, BUSY) (440) (io), 39 I/O (DIN, D0) (437) (io), 40 I/O (434) (io), 41 I/O, VREF (428) (io), 42 I/O (425) (io), 43 I/O (422) (io), 44 I/O (D1) (419) (io), 46 I/O (D2) (416) (io), 47 I/O (413) (io), 48 I/O, VREF (401) (io), 49 I/O (D3) (398) (io), 50 I/O (395) (io), 51 I/O, IRDY (389) (io), 53 VCCO (power), 54 I/O, TRDY (386) (io), 56 I/O (380) (io), 57 I/O (D4) (377) (io), 58 I/O, VREF (374) (io), 59 I/O (362) (io), 60 I/O (D5) (359) (io), 62 I/O (D6) (356) (io), 63 I/O (353) (io), 64 I/O (350) (io), 65 I/O, VREF (347) (io), 66 I/O (341) (io), 67 I/O (D7) (338) (io), 68 I/O (~{INIT}) (335) (io), 70 VCCO (power), 71 VCCO (power), 74 I/O (328) (io), 75 I/O (325) (io), 76 I/O (322) (io), 77 I/O, VREF (316) (io), 78 I/O (313) (io), 79 I/O (310) (io), 80 I/O (307) (io), 83 I/O (304) (io), 84 I/O (301) (io), 85 I/O, VREF (289) (io), 86 I/O (283) (io), 87 I/O (280) (io), 88 GCK0 (276) (in), 90 VCCO (power), 91 GCK1 (275) (in), 93 I/O (266) (io), 94 I/O, VREF (260) (io), 95 I/O (248) (io), 96 I/O (245) (io), 99 I/O (242) (io), 100 I/O (239) (io), 101 I/O (236) (io), 102 I/O, VREF (233) (io), 103 I/O (227) (io), 107 VCCO (power), 108 VCCO (power), 112 I/O (215) (io), 113 I/O (212) (io), 114 I/O (209) (io), 115 I/O, VREF (203) (io), 116 I/O (200) (io), 117 I/O (197) (io), 118 I/O (194) (io), 120 I/O (191) (io), 121 I/O (188) (io), 122 I/O, VREF (176) (io), 123 I/O (173) (io), 124 I/O (170) (io), 126 I/O, TRDY (164) (io), 127 VCCO (power), 129 I/O, IRDY (161) (io), 130 I/O (155) (io), 131 I/O (152) (io), 132 I/O, VREF (149) (io), 133 I/O (137) (io), 134 I/O (134) (io), 136 I/O (131) (io), 137 I/O (128) (io), 138 I/O (125) (io), 139 I/O, VREF (122) (io), 140 I/O (116) (io), 141 I/O (113) (io), 144 VCCO (power)
part B pins: 2 TCK (io), 8 GND (power), 9 VCCINT (power), 14 VCCINT (power), 17 GND (power), 24 VCCINT (power), 25 GND (power), 32 TDI (io), 33 GND (power), 34 TDO (io), 37 CCLK (443) (io), 45 GND (power), 52 GND (power), 55 VCCINT (power), 61 GND (power), 69 PROGRAM (334) (in), 72 DONE (331) (io), 73 GND (power), 81 GND (power), 82 VCCINT (power), 89 GND (power), 92 VCCINT (power), 97 VCCINT (power), 98 GND (power), 104 NC, 105 NC, 106 M2 (220) (in), 109 M0 (219) (in), 110 GND (power), 111 M1 (218) (in), 119 GND (power), 125 VCCINT (power), 128 GND (power), 135 GND (power), 142 TMS (io), 143 GND (power)
part A text: BANK 0; BANK 1; BANK 7; BANK 2; BANK 6; BANK 3; BANK 5; BANK 4